# Altium integrated library Motorola Microcontroller 32-Bit.IntLib: 337 symbols (part 8 of 29)
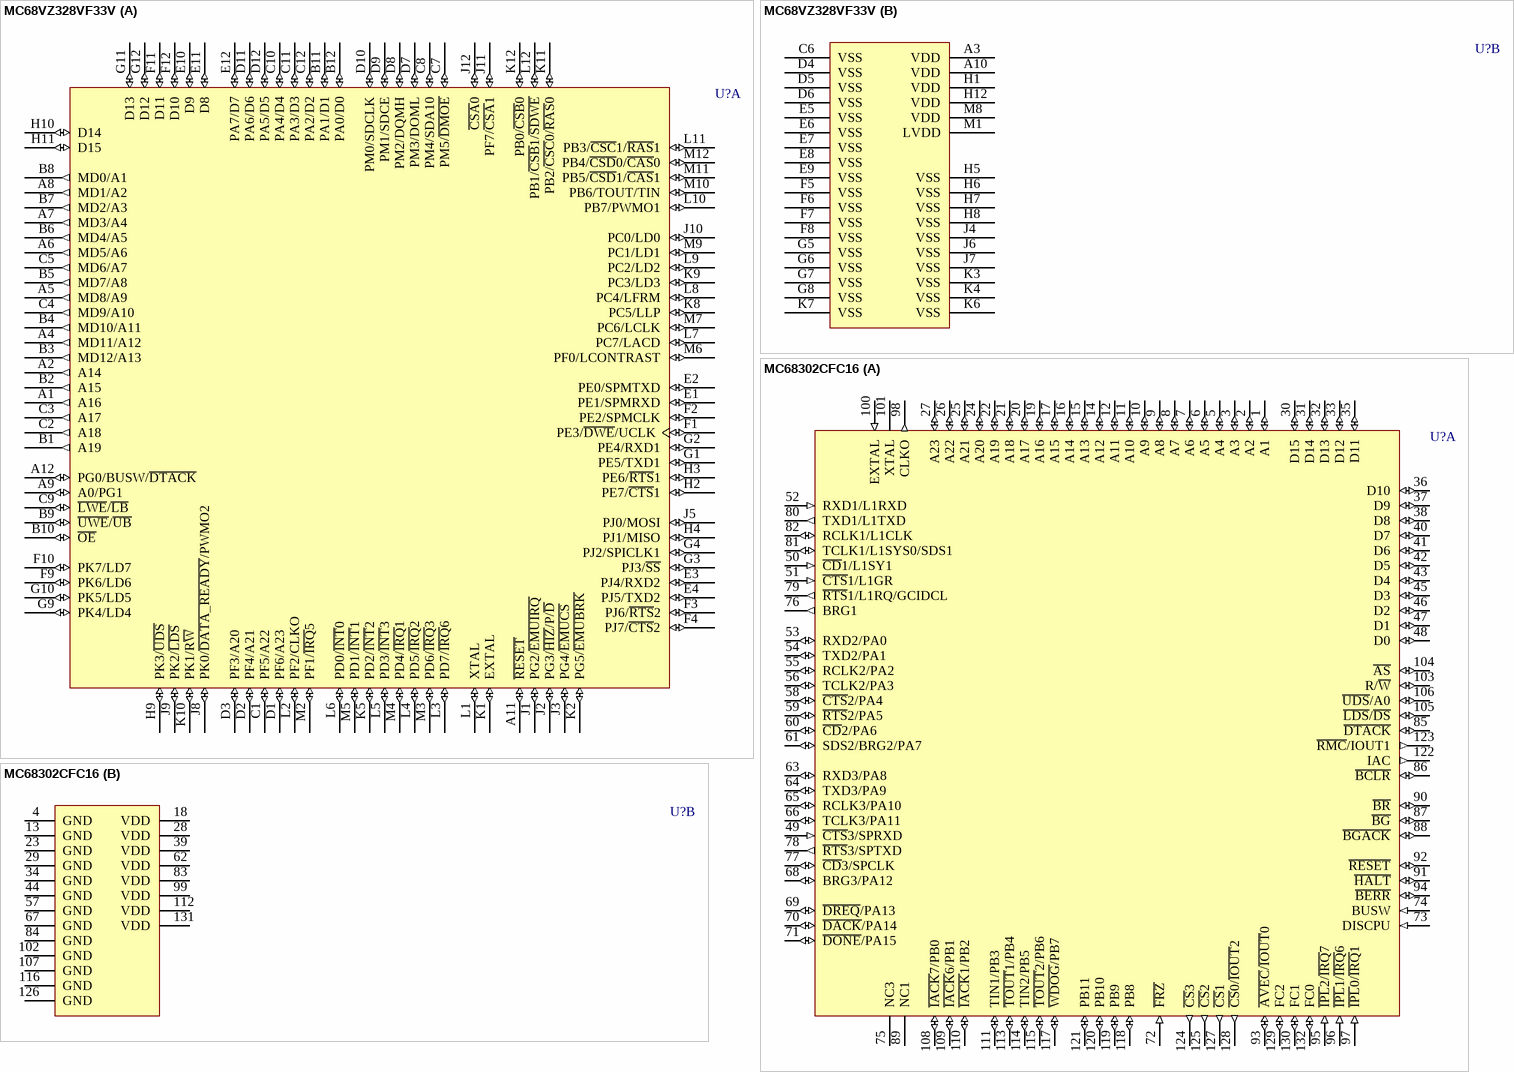
[diagram p247: symbols MC68VZ328VF33V to MC68302CFC16]

## MC68302CFC16
designator U?
Integrated Multiprotocol Processor; Published: 21-Mar-2003; DatasheetVersion: 30-Dec-1995; PackageVersion: 1997; PackageReference: 831A-01; Publisher: Altium Limited; PackageDescription: PQFP; 132 Leads; Body 24 x 24 mm; Pitch 0.635 mm; ComponentLink1Description: Manufacturer Link; ComponentLink1URL: http://www.freescale.com/; ComponentLink2Description: Datasheet; ComponentLink2URL: http://www.freescale.com/files/32bit/doc/ref_manual/MC68302UM.pdf
footprint 831A-01 (PQFP; 132 Leads; Body 24 x 24 mm; Pitch 0.635 mm)
part A pins: 1 A1 (io), 2 A2 (io), 3 A3 (io), 5 A4 (io), 6 A5 (io), 7 A6 (io), 8 A7 (io), 9 A8 (io), 10 A9 (io), 11 A10 (io), 12 A11 (io), 14 A12 (io), 15 A13 (io), 16 A14 (io), 17 A15 (io), 19 A16 (io), 20 A17 (io), 21 A18 (io), 22 A19 (io), 24 A20 (io), 25 A21 (io), 26 A22 (io), 27 A23 (io), 30 D15 (io), 31 D14 (io), 32 D13 (io), 33 D12 (io), 35 D11 (io), 36 D10 (io), 37 D9 (io), 38 D8 (io), 40 D7 (io), 41 D6 (io), 42 D5 (io), 43 D4 (io), 45 D3 (io), 46 D2 (io), 47 D1 (io), 48 D0 (io), 49 ~{CTS}3/SPRXD (in), 50 ~{CD}1/L1SY1 (in), 51 ~{CTS}1/L1GR (in), 52 RXD1/L1RXD (in), 53 RXD2/PA0 (io), 54 TXD2/PA1 (io), 55 RCLK2/PA2 (io), 56 TCLK2/PA3 (io), 58 ~{CTS}2/PA4 (io), 59 ~{RTS}2/PA5 (io), 60 ~{CD}2/PA6 (io), 61 SDS2/BRG2/PA7 (io), 63 RXD3/PA8 (io), 64 TXD3/PA9 (io), 65 RCLK3/PA10 (io), 66 TCLK3/PA11 (io), 68 BRG3/PA12 (io), 69 ~{DREQ}/PA13 (io), 70 ~{DACK}/PA14 (io), 71 ~{DONE}/PA15 (io), 72 ~{FRZ} (in), 73 DISCPU (in), 74 BUSW (in), 75 NC3, 76 BRG1 (out), 77 ~{CD}3/SPCLK (io), 78 ~{RTS}3/SPTXD (out), 79 ~{RTS}1/L1RQ/GCIDCL (out), 80 TXD1/L1TXD (out), 81 TCLK1/L1SYS0/SDS1 (io), 82 RCLK1/L1CLK (io), 85 ~{DTACK} (io), 86 ~{BCLR} (io), 87 ~{BG} (io), 88 ~{BGACK} (io), 89 NC1, 90 ~{BR} (io), 91 ~{HALT} (io), 92 ~{RESET} (io), 93 ~{AVEC}/~{IOUT}0 (io), 94 ~{BERR} (io), 95 ~{IPL}2/~{IRQ}7 (in), 96 ~{IPL}1/~{IRQ}6 (in), 97 ~{IPL}0/~{IRQ}1 (in), 98 CLKO (out), 100 EXTAL (in), 101 XTAL, 103 R/~{W} (io), 104 ~{AS} (io), 105 ~{LDS}/~{DS} (io), 106 ~{UDS}/A0 (io), 108 ~{IACK}7/PB0 (io), 109 ~{IACK}6/PB1 (io), 110 ~{IACK}1/PB2 (io), 111 TIN1/PB3 (io), 113 ~{TOUT}1/PB4 (io), 114 TIN2/PB5 (io), 115 ~{TOUT}2/PB6 (io), 117 ~{WDOG}/PB7 (io), 118 PB8 (io), 119 PB9 (io), 120 PB10 (io), 121 PB11 (io), 122 IAC (out), 123 ~{RMC}/IOUT1 (out), 124 ~{CS}3 (out), 125 ~{CS}2 (out), 127 ~{CS}1 (out), 128 ~{CS}0/~{IOUT}2 (out), 129 FC2 (io), 130 FC1 (io), 132 FC0 (io)
part B pins: 4 GND (power), 13 GND (power), 18 VDD (power), 23 GND (power), 28 VDD (power), 29 GND (power), 34 GND (power), 39 VDD (power), 44 GND (power), 57 GND (power), 62 VDD (power), 67 GND (power), 83 VDD (power), 84 GND (power), 99 VDD (power), 102 GND (power), 107 GND (power), 112 VDD (power), 116 GND (power), 126 GND (power), 131 VDD (power)

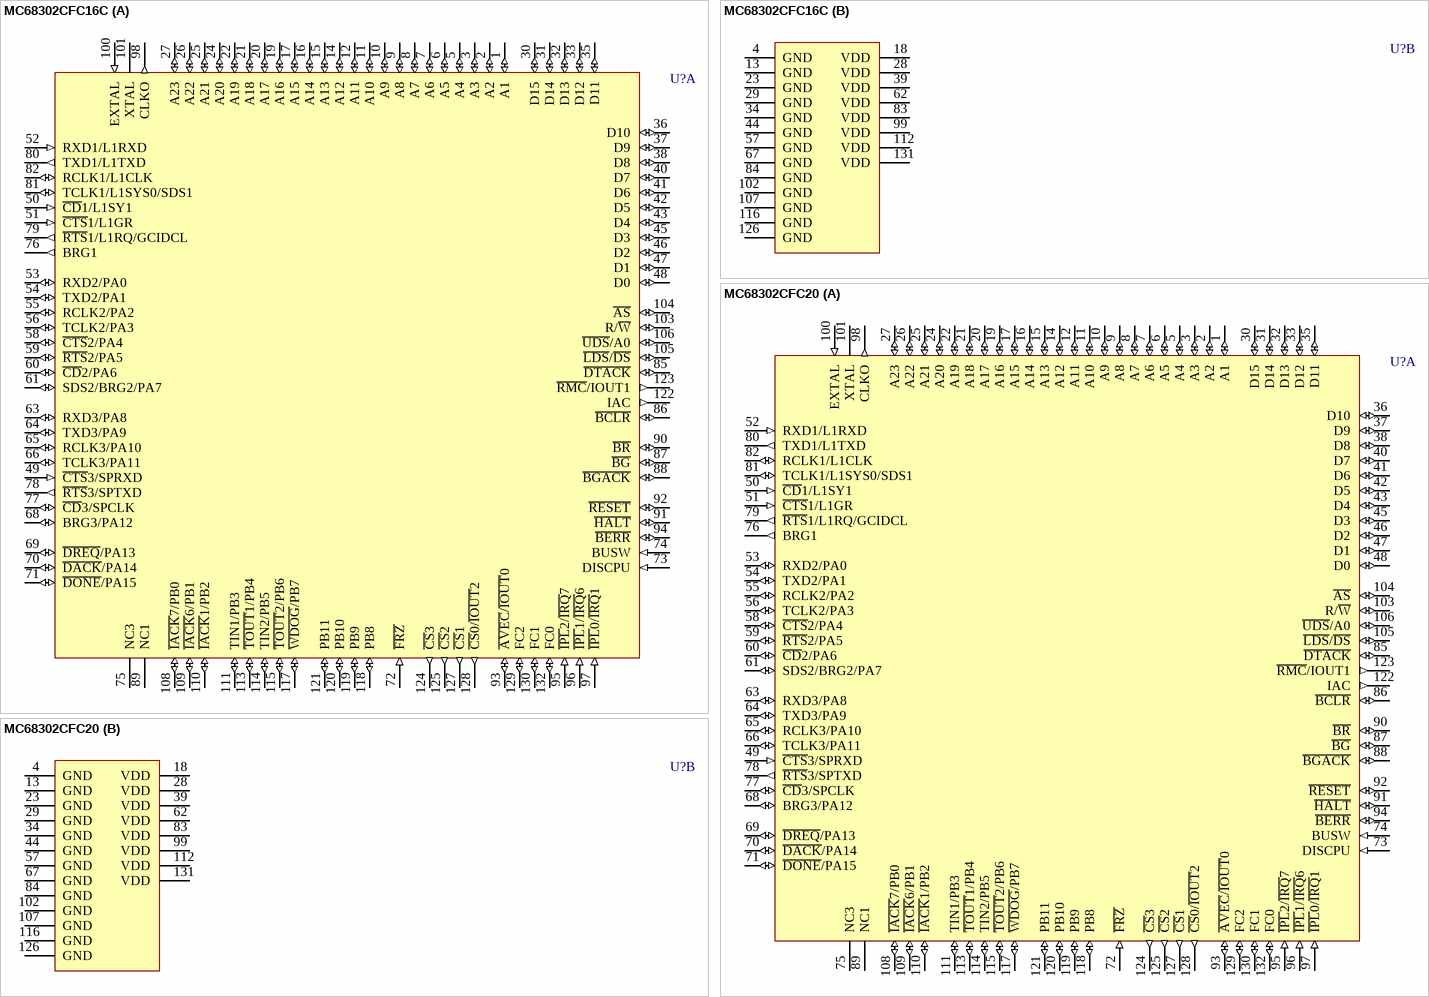
[diagram p70: symbols MC68302CFC16C to MC68302CFC20]

## MC68302CFC16C
designator U?
Integrated Multiprotocol Processor; Published: 21-Mar-2003; DatasheetVersion: 30-Dec-1995; PackageVersion: 1997; PackageReference: 831A-01; Publisher: Altium Limited; PackageDescription: PQFP; 132 Leads; Body 24 x 24 mm; Pitch 0.635 mm; ComponentLink1Description: Manufacturer Link; ComponentLink1URL: http://www.freescale.com/
footprint 831A-01 (PQFP; 132 Leads; Body 24 x 24 mm; Pitch 0.635 mm)
part A pins: 1 A1 (io), 2 A2 (io), 3 A3 (io), 5 A4 (io), 6 A5 (io), 7 A6 (io), 8 A7 (io), 9 A8 (io), 10 A9 (io), 11 A10 (io), 12 A11 (io), 14 A12 (io), 15 A13 (io), 16 A14 (io), 17 A15 (io), 19 A16 (io), 20 A17 (io), 21 A18 (io), 22 A19 (io), 24 A20 (io), 25 A21 (io), 26 A22 (io), 27 A23 (io), 30 D15 (io), 31 D14 (io), 32 D13 (io), 33 D12 (io), 35 D11 (io), 36 D10 (io), 37 D9 (io), 38 D8 (io), 40 D7 (io), 41 D6 (io), 42 D5 (io), 43 D4 (io), 45 D3 (io), 46 D2 (io), 47 D1 (io), 48 D0 (io), 49 ~{CTS}3/SPRXD (in), 50 ~{CD}1/L1SY1 (in), 51 ~{CTS}1/L1GR (in), 52 RXD1/L1RXD (in), 53 RXD2/PA0 (io), 54 TXD2/PA1 (io), 55 RCLK2/PA2 (io), 56 TCLK2/PA3 (io), 58 ~{CTS}2/PA4 (io), 59 ~{RTS}2/PA5 (io), 60 ~{CD}2/PA6 (io), 61 SDS2/BRG2/PA7 (io), 63 RXD3/PA8 (io), 64 TXD3/PA9 (io), 65 RCLK3/PA10 (io), 66 TCLK3/PA11 (io), 68 BRG3/PA12 (io), 69 ~{DREQ}/PA13 (io), 70 ~{DACK}/PA14 (io), 71 ~{DONE}/PA15 (io), 72 ~{FRZ} (in), 73 DISCPU (in), 74 BUSW (in), 75 NC3, 76 BRG1 (out), 77 ~{CD}3/SPCLK (io), 78 ~{RTS}3/SPTXD (out), 79 ~{RTS}1/L1RQ/GCIDCL (out), 80 TXD1/L1TXD (out), 81 TCLK1/L1SYS0/SDS1 (io), 82 RCLK1/L1CLK (io), 85 ~{DTACK} (io), 86 ~{BCLR} (io), 87 ~{BG} (io), 88 ~{BGACK} (io), 89 NC1, 90 ~{BR} (io), 91 ~{HALT} (io), 92 ~{RESET} (io), 93 ~{AVEC}/~{IOUT}0 (io), 94 ~{BERR} (io), 95 ~{IPL}2/~{IRQ}7 (in), 96 ~{IPL}1/~{IRQ}6 (in), 97 ~{IPL}0/~{IRQ}1 (in), 98 CLKO (out), 100 EXTAL (in), 101 XTAL, 103 R/~{W} (io), 104 ~{AS} (io), 105 ~{LDS}/~{DS} (io), 106 ~{UDS}/A0 (io), 108 ~{IACK}7/PB0 (io), 109 ~{IACK}6/PB1 (io), 110 ~{IACK}1/PB2 (io), 111 TIN1/PB3 (io), 113 ~{TOUT}1/PB4 (io), 114 TIN2/PB5 (io), 115 ~{TOUT}2/PB6 (io), 117 ~{WDOG}/PB7 (io), 118 PB8 (io), 119 PB9 (io), 120 PB10 (io), 121 PB11 (io), 122 IAC (out), 123 ~{RMC}/IOUT1 (out), 124 ~{CS}3 (out), 125 ~{CS}2 (out), 127 ~{CS}1 (out), 128 ~{CS}0/~{IOUT}2 (out), 129 FC2 (io), 130 FC1 (io), 132 FC0 (io)
part B pins: 4 GND (power), 13 GND (power), 18 VDD (power), 23 GND (power), 28 VDD (power), 29 GND (power), 34 GND (power), 39 VDD (power), 44 GND (power), 57 GND (power), 62 VDD (power), 67 GND (power), 83 VDD (power), 84 GND (power), 99 VDD (power), 102 GND (power), 107 GND (power), 112 VDD (power), 116 GND (power), 126 GND (power), 131 VDD (power)

## MC68302CFC20
designator U?
Integrated Multiprotocol Processor; Published: 21-Mar-2003; DatasheetVersion: 30-Dec-1995; PackageVersion: 1997; PackageReference: 831A-01; Publisher: Altium Limited; PackageDescription: PQFP; 132 Leads; Body 24 x 24 mm; Pitch 0.635 mm; ComponentLink1Description: Manufacturer Link; ComponentLink1URL: http://www.freescale.com/; ComponentLink2Description: Datasheet; ComponentLink2URL: http://www.freescale.com/files/32bit/doc/ref_manual/MC68302UM.pdf
footprint 831A-01 (PQFP; 132 Leads; Body 24 x 24 mm; Pitch 0.635 mm)
part A pins: 1 A1 (io), 2 A2 (io), 3 A3 (io), 5 A4 (io), 6 A5 (io), 7 A6 (io), 8 A7 (io), 9 A8 (io), 10 A9 (io), 11 A10 (io), 12 A11 (io), 14 A12 (io), 15 A13 (io), 16 A14 (io), 17 A15 (io), 19 A16 (io), 20 A17 (io), 21 A18 (io), 22 A19 (io), 24 A20 (io), 25 A21 (io), 26 A22 (io), 27 A23 (io), 30 D15 (io), 31 D14 (io), 32 D13 (io), 33 D12 (io), 35 D11 (io), 36 D10 (io), 37 D9 (io), 38 D8 (io), 40 D7 (io), 41 D6 (io), 42 D5 (io), 43 D4 (io), 45 D3 (io), 46 D2 (io), 47 D1 (io), 48 D0 (io), 49 ~{CTS}3/SPRXD (in), 50 ~{CD}1/L1SY1 (in), 51 ~{CTS}1/L1GR (in), 52 RXD1/L1RXD (in), 53 RXD2/PA0 (io), 54 TXD2/PA1 (io), 55 RCLK2/PA2 (io), 56 TCLK2/PA3 (io), 58 ~{CTS}2/PA4 (io), 59 ~{RTS}2/PA5 (io), 60 ~{CD}2/PA6 (io), 61 SDS2/BRG2/PA7 (io), 63 RXD3/PA8 (io), 64 TXD3/PA9 (io), 65 RCLK3/PA10 (io), 66 TCLK3/PA11 (io), 68 BRG3/PA12 (io), 69 ~{DREQ}/PA13 (io), 70 ~{DACK}/PA14 (io), 71 ~{DONE}/PA15 (io), 72 ~{FRZ} (in), 73 DISCPU (in), 74 BUSW (in), 75 NC3, 76 BRG1 (out), 77 ~{CD}3/SPCLK (io), 78 ~{RTS}3/SPTXD (out), 79 ~{RTS}1/L1RQ/GCIDCL (out), 80 TXD1/L1TXD (out), 81 TCLK1/L1SYS0/SDS1 (io), 82 RCLK1/L1CLK (io), 85 ~{DTACK} (io), 86 ~{BCLR} (io), 87 ~{BG} (io), 88 ~{BGACK} (io), 89 NC1, 90 ~{BR} (io), 91 ~{HALT} (io), 92 ~{RESET} (io), 93 ~{AVEC}/~{IOUT}0 (io), 94 ~{BERR} (io), 95 ~{IPL}2/~{IRQ}7 (in), 96 ~{IPL}1/~{IRQ}6 (in), 97 ~{IPL}0/~{IRQ}1 (in), 98 CLKO (out), 100 EXTAL (in), 101 XTAL, 103 R/~{W} (io), 104 ~{AS} (io), 105 ~{LDS}/~{DS} (io), 106 ~{UDS}/A0 (io), 108 ~{IACK}7/PB0 (io), 109 ~{IACK}6/PB1 (io), 110 ~{IACK}1/PB2 (io), 111 TIN1/PB3 (io), 113 ~{TOUT}1/PB4 (io), 114 TIN2/PB5 (io), 115 ~{TOUT}2/PB6 (io), 117 ~{WDOG}/PB7 (io), 118 PB8 (io), 119 PB9 (io), 120 PB10 (io), 121 PB11 (io), 122 IAC (out), 123 ~{RMC}/IOUT1 (out), 124 ~{CS}3 (out), 125 ~{CS}2 (out), 127 ~{CS}1 (out), 128 ~{CS}0/~{IOUT}2 (out), 129 FC2 (io), 130 FC1 (io), 132 FC0 (io)
part B pins: 4 GND (power), 13 GND (power), 18 VDD (power), 23 GND (power), 28 VDD (power), 29 GND (power), 34 GND (power), 39 VDD (power), 44 GND (power), 57 GND (power), 62 VDD (power), 67 GND (power), 83 VDD (power), 84 GND (power), 99 VDD (power), 102 GND (power), 107 GND (power), 112 VDD (power), 116 GND (power), 126 GND (power), 131 VDD (power)

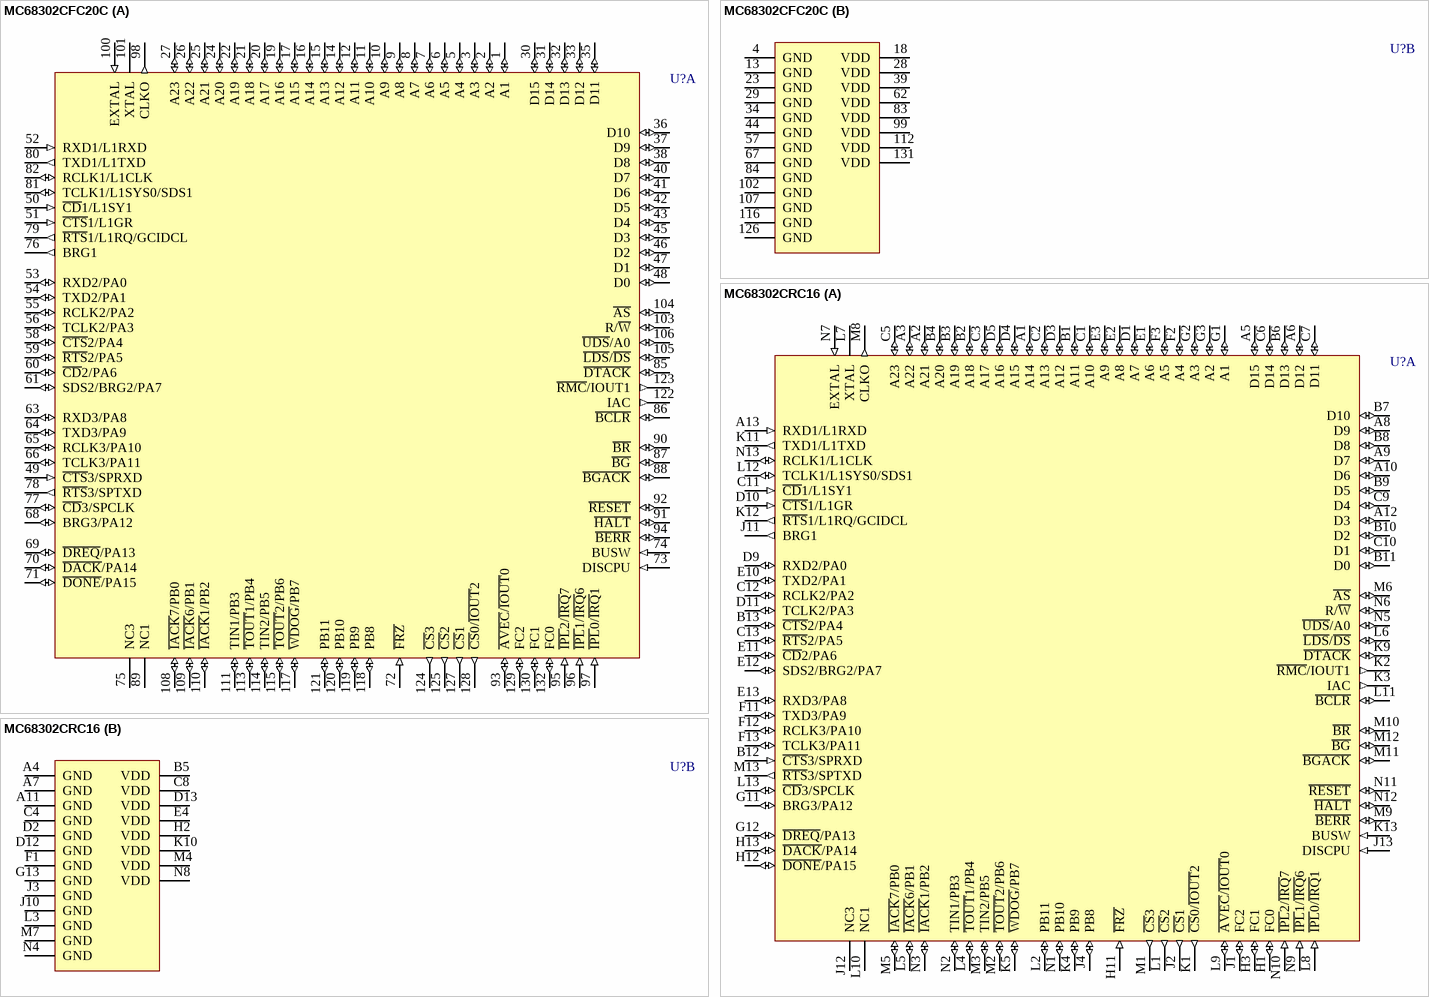
[diagram p71: symbols MC68302CFC20C to MC68302CRC16]

## MC68302CFC20C
designator U?
Integrated Multiprotocol Processor; Published: 21-Mar-2003; DatasheetVersion: 30-Dec-1995; PackageVersion: 1997; PackageReference: 831A-01; Publisher: Altium Limited; PackageDescription: PQFP; 132 Leads; Body 24 x 24 mm; Pitch 0.635 mm; ComponentLink1Description: Manufacturer Link; ComponentLink1URL: http://www.freescale.com/
footprint 831A-01 (PQFP; 132 Leads; Body 24 x 24 mm; Pitch 0.635 mm)
part A pins: 1 A1 (io), 2 A2 (io), 3 A3 (io), 5 A4 (io), 6 A5 (io), 7 A6 (io), 8 A7 (io), 9 A8 (io), 10 A9 (io), 11 A10 (io), 12 A11 (io), 14 A12 (io), 15 A13 (io), 16 A14 (io), 17 A15 (io), 19 A16 (io), 20 A17 (io), 21 A18 (io), 22 A19 (io), 24 A20 (io), 25 A21 (io), 26 A22 (io), 27 A23 (io), 30 D15 (io), 31 D14 (io), 32 D13 (io), 33 D12 (io), 35 D11 (io), 36 D10 (io), 37 D9 (io), 38 D8 (io), 40 D7 (io), 41 D6 (io), 42 D5 (io), 43 D4 (io), 45 D3 (io), 46 D2 (io), 47 D1 (io), 48 D0 (io), 49 ~{CTS}3/SPRXD (in), 50 ~{CD}1/L1SY1 (in), 51 ~{CTS}1/L1GR (in), 52 RXD1/L1RXD (in), 53 RXD2/PA0 (io), 54 TXD2/PA1 (io), 55 RCLK2/PA2 (io), 56 TCLK2/PA3 (io), 58 ~{CTS}2/PA4 (io), 59 ~{RTS}2/PA5 (io), 60 ~{CD}2/PA6 (io), 61 SDS2/BRG2/PA7 (io), 63 RXD3/PA8 (io), 64 TXD3/PA9 (io), 65 RCLK3/PA10 (io), 66 TCLK3/PA11 (io), 68 BRG3/PA12 (io), 69 ~{DREQ}/PA13 (io), 70 ~{DACK}/PA14 (io), 71 ~{DONE}/PA15 (io), 72 ~{FRZ} (in), 73 DISCPU (in), 74 BUSW (in), 75 NC3, 76 BRG1 (out), 77 ~{CD}3/SPCLK (io), 78 ~{RTS}3/SPTXD (out), 79 ~{RTS}1/L1RQ/GCIDCL (out), 80 TXD1/L1TXD (out), 81 TCLK1/L1SYS0/SDS1 (io), 82 RCLK1/L1CLK (io), 85 ~{DTACK} (io), 86 ~{BCLR} (io), 87 ~{BG} (io), 88 ~{BGACK} (io), 89 NC1, 90 ~{BR} (io), 91 ~{HALT} (io), 92 ~{RESET} (io), 93 ~{AVEC}/~{IOUT}0 (io), 94 ~{BERR} (io), 95 ~{IPL}2/~{IRQ}7 (in), 96 ~{IPL}1/~{IRQ}6 (in), 97 ~{IPL}0/~{IRQ}1 (in), 98 CLKO (out), 100 EXTAL (in), 101 XTAL, 103 R/~{W} (io), 104 ~{AS} (io), 105 ~{LDS}/~{DS} (io), 106 ~{UDS}/A0 (io), 108 ~{IACK}7/PB0 (io), 109 ~{IACK}6/PB1 (io), 110 ~{IACK}1/PB2 (io), 111 TIN1/PB3 (io), 113 ~{TOUT}1/PB4 (io), 114 TIN2/PB5 (io), 115 ~{TOUT}2/PB6 (io), 117 ~{WDOG}/PB7 (io), 118 PB8 (io), 119 PB9 (io), 120 PB10 (io), 121 PB11 (io), 122 IAC (out), 123 ~{RMC}/IOUT1 (out), 124 ~{CS}3 (out), 125 ~{CS}2 (out), 127 ~{CS}1 (out), 128 ~{CS}0/~{IOUT}2 (out), 129 FC2 (io), 130 FC1 (io), 132 FC0 (io)
part B pins: 4 GND (power), 13 GND (power), 18 VDD (power), 23 GND (power), 28 VDD (power), 29 GND (power), 34 GND (power), 39 VDD (power), 44 GND (power), 57 GND (power), 62 VDD (power), 67 GND (power), 83 VDD (power), 84 GND (power), 99 VDD (power), 102 GND (power), 107 GND (power), 112 VDD (power), 116 GND (power), 126 GND (power), 131 VDD (power)

## MC68302CRC16
designator U?
Integrated Multiprotocol Processor; Published: 21-Mar-2003; LatestRevisionDate: 06-Jun-2005; LatestRevisionNote: Stylized 3D Model Added.; DatasheetVersion: 30-Dec-1995; PackageVersion: 1995; PackageReference: 789B-01; Publisher: Altium Limited; PackageDescription: 132-Pin Ceramic Pin Grid Array 2.54 mm Pitch; ComponentLink1Description: Manufacturer Link; ComponentLink1URL: http://www.freescale.com/; ComponentLink2Description: Datasheet; ComponentLink2URL: http://www.freescale.com/files/32bit/doc/ref_manual/MC68302UM.pdf
footprint 789B-01 (PGA, 132-Leads, Body 34.5x34.5mm, Pitch 2.54mm)
3D model MC68302-789B-01 (132-Pin Ceramic Pin Grid Array 2.54 mm Pitch)
part A pins: A1 A14 (io), A2 A21 (io), A3 A22 (io), A5 D15 (io), A6 D12 (io), A8 D9 (io), A9 D7 (io), A10 D6 (io), A12 D3 (io), A13 RXD1/L1RXD (in), B1 A11 (io), B2 A18 (io), B3 A19 (io), B4 A20 (io), B6 D13 (io), B7 D10 (io), B8 D8 (io), B9 D5 (io), B10 D2 (io), B11 D0 (io), B12 ~{CTS}3/SPRXD (in), B13 ~{CTS}2/PA4 (io), C1 A10 (io), C2 A13 (io), C3 A17 (io), C5 A23 (io), C6 D14 (io), C7 D11 (io), C9 D4 (io), C10 D1 (io), C11 ~{CD}1/L1SY1 (in), C12 RCLK2/PA2 (io), C13 ~{RTS}2/PA5 (io), D1 A7 (io), D3 A12 (io), D4 A15 (io), D5 A16 (io), D9 RXD2/PA0 (io), D10 ~{CTS}1/L1GR (in), D11 TCLK2/PA3 (io), E1 A6 (io), E2 A8 (io), E3 A9 (io), E10 TXD2/PA1 (io), E11 ~{CD}2/PA6 (io), E12 SDS2/BRG2/PA7 (io), E13 RXD3/PA8 (io), F2 A4 (io), F3 A5 (io), F11 TXD3/PA9 (io), F12 RCLK3/PA10 (io), F13 TCLK3/PA11 (io), G1 A1 (io), G2 A3 (io), G3 A2 (io), G11 BRG3/PA12 (io), G12 ~{DREQ}/PA13 (io), H1 FC0 (io), H3 FC1 (io), H11 ~{FRZ} (in), H12 ~{DONE}/PA15 (io), H13 ~{DACK}/PA14 (io), J1 FC2 (io), J2 ~{CS}1 (out), J4 PB8 (io), J11 BRG1 (out), J12 NC3, J13 DISCPU (in), K1 ~{CS}0/~{IOUT}2 (out), K2 ~{RMC}/IOUT1 (out), K3 IAC (out), K4 PB9 (io), K5 ~{WDOG}/PB7 (io), K9 ~{DTACK} (io), K11 TXD1/L1TXD (out), K12 ~{RTS}1/L1RQ/GCIDCL (out), K13 BUSW (in), L1 ~{CS}2 (out), L2 PB11 (io), L4 ~{TOUT}1/PB4 (io), L5 ~{IACK}6/PB1 (io), L6 ~{LDS}/~{DS} (io), L7 XTAL, L8 ~{IPL}0/~{IRQ}1 (in), L9 ~{AVEC}/~{IOUT}0 (io), L10 NC1, L11 ~{BCLR} (io), L12 TCLK1/L1SYS0/SDS1 (io), L13 ~{CD}3/SPCLK (io), M1 ~{CS}3 (out), M2 ~{TOUT}2/PB6 (io), M3 TIN2/PB5 (io), M5 ~{IACK}7/PB0 (io), M6 ~{AS} (io), M8 CLKO (out), M9 ~{BERR} (io), M10 ~{BR} (io), M11 ~{BGACK} (io), M12 ~{BG} (io), M13 ~{RTS}3/SPTXD (out), N1 PB10 (io), N2 TIN1/PB3 (io), N3 ~{IACK}1/PB2 (io), N5 ~{UDS}/A0 (io), N6 R/~{W} (io), N7 EXTAL (in), N9 ~{IPL}1/~{IRQ}6 (in), N10 ~{IPL}2/~{IRQ}7 (in), N11 ~{RESET} (io), N12 ~{HALT} (io), N13 RCLK1/L1CLK (io)
part B pins: A4 GND (power), A7 GND (power), A11 GND (power), B5 VDD (power), C4 GND (power), C8 VDD (power), D2 GND (power), D12 GND (power), D13 VDD (power), E4 VDD (power), F1 GND (power), G13 GND (power), H2 VDD (power), J3 GND (power), J10 GND (power), K10 VDD (power), L3 GND (power), M4 VDD (power), M7 GND (power), N4 GND (power), N8 VDD (power)

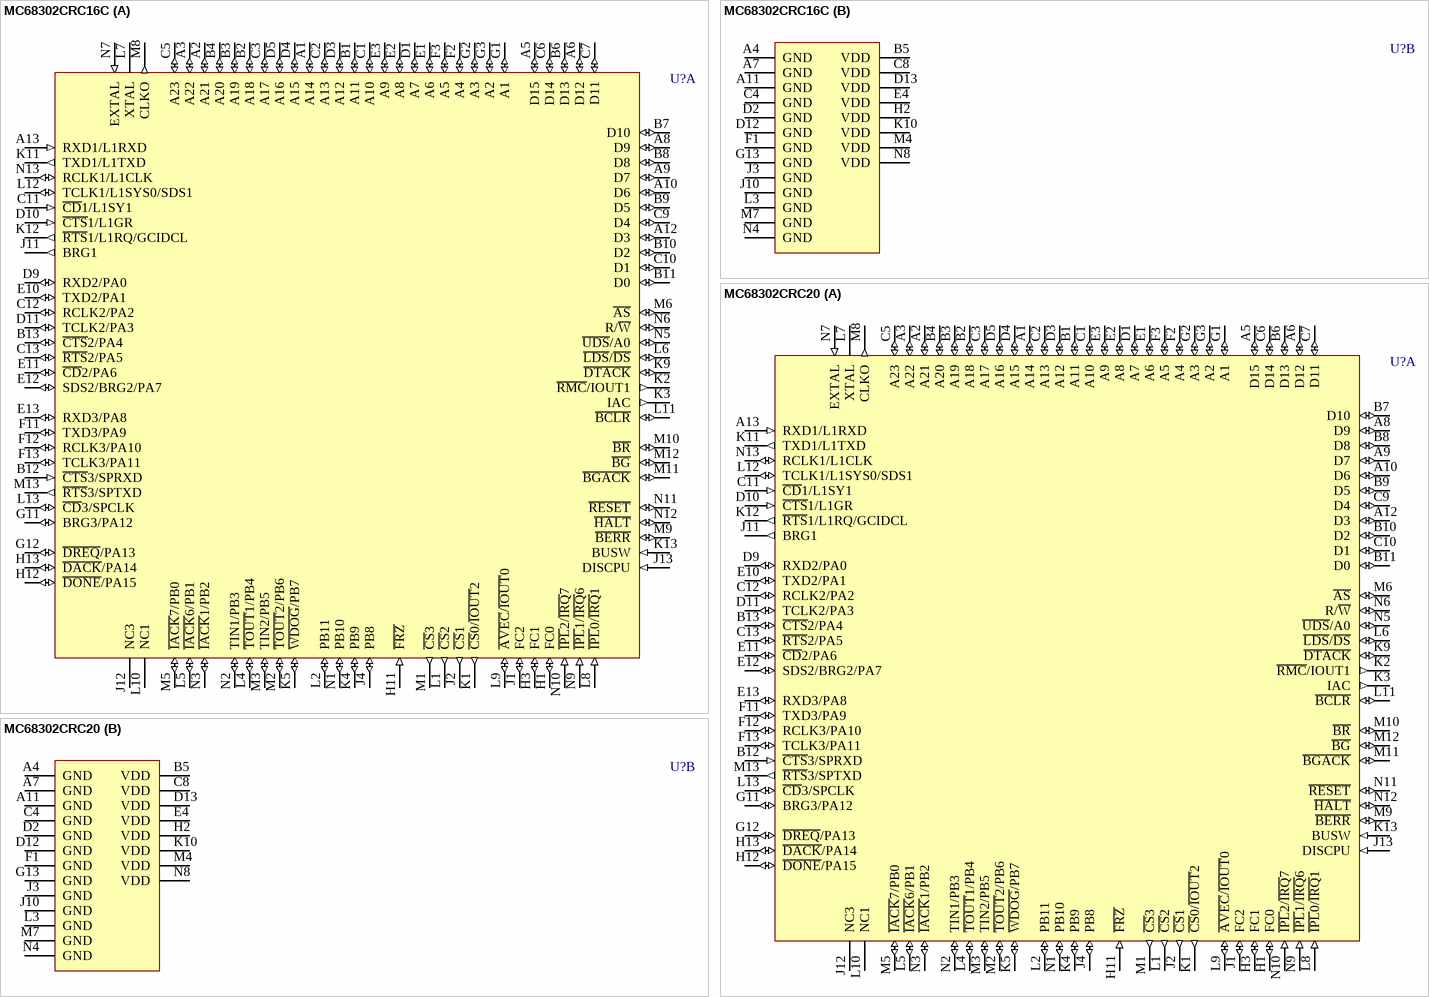
[diagram p72: symbols MC68302CRC16C to MC68302CRC20]

## MC68302CRC16C
designator U?
Integrated Multiprotocol Processor; Published: 21-Mar-2003; LatestRevisionDate: 06-Jun-2005; LatestRevisionNote: Stylized 3D Model Added.; DatasheetVersion: 30-Dec-1995; PackageVersion: 1995; PackageReference: 789B-01; Publisher: Altium Limited; PackageDescription: 132-Pin Ceramic Pin Grid Array 2.54 mm Pitch; ComponentLink1Description: Manufacturer Link; ComponentLink1URL: http://www.freescale.com/
footprint 789B-01 (PGA, 132-Leads, Body 34.5x34.5mm, Pitch 2.54mm)
3D model MC68302-789B-01 (132-Pin Ceramic Pin Grid Array 2.54 mm Pitch)
part A pins: A1 A14 (io), A2 A21 (io), A3 A22 (io), A5 D15 (io), A6 D12 (io), A8 D9 (io), A9 D7 (io), A10 D6 (io), A12 D3 (io), A13 RXD1/L1RXD (in), B1 A11 (io), B2 A18 (io), B3 A19 (io), B4 A20 (io), B6 D13 (io), B7 D10 (io), B8 D8 (io), B9 D5 (io), B10 D2 (io), B11 D0 (io), B12 ~{CTS}3/SPRXD (in), B13 ~{CTS}2/PA4 (io), C1 A10 (io), C2 A13 (io), C3 A17 (io), C5 A23 (io), C6 D14 (io), C7 D11 (io), C9 D4 (io), C10 D1 (io), C11 ~{CD}1/L1SY1 (in), C12 RCLK2/PA2 (io), C13 ~{RTS}2/PA5 (io), D1 A7 (io), D3 A12 (io), D4 A15 (io), D5 A16 (io), D9 RXD2/PA0 (io), D10 ~{CTS}1/L1GR (in), D11 TCLK2/PA3 (io), E1 A6 (io), E2 A8 (io), E3 A9 (io), E10 TXD2/PA1 (io), E11 ~{CD}2/PA6 (io), E12 SDS2/BRG2/PA7 (io), E13 RXD3/PA8 (io), F2 A4 (io), F3 A5 (io), F11 TXD3/PA9 (io), F12 RCLK3/PA10 (io), F13 TCLK3/PA11 (io), G1 A1 (io), G2 A3 (io), G3 A2 (io), G11 BRG3/PA12 (io), G12 ~{DREQ}/PA13 (io), H1 FC0 (io), H3 FC1 (io), H11 ~{FRZ} (in), H12 ~{DONE}/PA15 (io), H13 ~{DACK}/PA14 (io), J1 FC2 (io), J2 ~{CS}1 (out), J4 PB8 (io), J11 BRG1 (out), J12 NC3, J13 DISCPU (in), K1 ~{CS}0/~{IOUT}2 (out), K2 ~{RMC}/IOUT1 (out), K3 IAC (out), K4 PB9 (io), K5 ~{WDOG}/PB7 (io), K9 ~{DTACK} (io), K11 TXD1/L1TXD (out), K12 ~{RTS}1/L1RQ/GCIDCL (out), K13 BUSW (in), L1 ~{CS}2 (out), L2 PB11 (io), L4 ~{TOUT}1/PB4 (io), L5 ~{IACK}6/PB1 (io), L6 ~{LDS}/~{DS} (io), L7 XTAL, L8 ~{IPL}0/~{IRQ}1 (in), L9 ~{AVEC}/~{IOUT}0 (io), L10 NC1, L11 ~{BCLR} (io), L12 TCLK1/L1SYS0/SDS1 (io), L13 ~{CD}3/SPCLK (io), M1 ~{CS}3 (out), M2 ~{TOUT}2/PB6 (io), M3 TIN2/PB5 (io), M5 ~{IACK}7/PB0 (io), M6 ~{AS} (io), M8 CLKO (out), M9 ~{BERR} (io), M10 ~{BR} (io), M11 ~{BGACK} (io), M12 ~{BG} (io), M13 ~{RTS}3/SPTXD (out), N1 PB10 (io), N2 TIN1/PB3 (io), N3 ~{IACK}1/PB2 (io), N5 ~{UDS}/A0 (io), N6 R/~{W} (io), N7 EXTAL (in), N9 ~{IPL}1/~{IRQ}6 (in), N10 ~{IPL}2/~{IRQ}7 (in), N11 ~{RESET} (io), N12 ~{HALT} (io), N13 RCLK1/L1CLK (io)
part B pins: A4 GND (power), A7 GND (power), A11 GND (power), B5 VDD (power), C4 GND (power), C8 VDD (power), D2 GND (power), D12 GND (power), D13 VDD (power), E4 VDD (power), F1 GND (power), G13 GND (power), H2 VDD (power), J3 GND (power), J10 GND (power), K10 VDD (power), L3 GND (power), M4 VDD (power), M7 GND (power), N4 GND (power), N8 VDD (power)

## MC68302CRC20
designator U?
Integrated Multiprotocol Processor; Published: 21-Mar-2003; LatestRevisionDate: 06-Jun-2005; LatestRevisionNote: Stylized 3D Model Added.; DatasheetVersion: 30-Dec-1995; PackageVersion: 1995; PackageReference: 789B-01; Publisher: Altium Limited; PackageDescription: 132-Pin Ceramic Pin Grid Array 2.54 mm Pitch; ComponentLink1Description: Manufacturer Link; ComponentLink1URL: http://www.freescale.com/; ComponentLink2Description: Datasheet; ComponentLink2URL: http://www.freescale.com/files/32bit/doc/ref_manual/MC68302UM.pdf
footprint 789B-01 (PGA, 132-Leads, Body 34.5x34.5mm, Pitch 2.54mm)
3D model MC68302-789B-01 (132-Pin Ceramic Pin Grid Array 2.54 mm Pitch)
part A pins: A1 A14 (io), A2 A21 (io), A3 A22 (io), A5 D15 (io), A6 D12 (io), A8 D9 (io), A9 D7 (io), A10 D6 (io), A12 D3 (io), A13 RXD1/L1RXD (in), B1 A11 (io), B2 A18 (io), B3 A19 (io), B4 A20 (io), B6 D13 (io), B7 D10 (io), B8 D8 (io), B9 D5 (io), B10 D2 (io), B11 D0 (io), B12 ~{CTS}3/SPRXD (in), B13 ~{CTS}2/PA4 (io), C1 A10 (io), C2 A13 (io), C3 A17 (io), C5 A23 (io), C6 D14 (io), C7 D11 (io), C9 D4 (io), C10 D1 (io), C11 ~{CD}1/L1SY1 (in), C12 RCLK2/PA2 (io), C13 ~{RTS}2/PA5 (io), D1 A7 (io), D3 A12 (io), D4 A15 (io), D5 A16 (io), D9 RXD2/PA0 (io), D10 ~{CTS}1/L1GR (in), D11 TCLK2/PA3 (io), E1 A6 (io), E2 A8 (io), E3 A9 (io), E10 TXD2/PA1 (io), E11 ~{CD}2/PA6 (io), E12 SDS2/BRG2/PA7 (io), E13 RXD3/PA8 (io), F2 A4 (io), F3 A5 (io), F11 TXD3/PA9 (io), F12 RCLK3/PA10 (io), F13 TCLK3/PA11 (io), G1 A1 (io), G2 A3 (io), G3 A2 (io), G11 BRG3/PA12 (io), G12 ~{DREQ}/PA13 (io), H1 FC0 (io), H3 FC1 (io), H11 ~{FRZ} (in), H12 ~{DONE}/PA15 (io), H13 ~{DACK}/PA14 (io), J1 FC2 (io), J2 ~{CS}1 (out), J4 PB8 (io), J11 BRG1 (out), J12 NC3, J13 DISCPU (in), K1 ~{CS}0/~{IOUT}2 (out), K2 ~{RMC}/IOUT1 (out), K3 IAC (out), K4 PB9 (io), K5 ~{WDOG}/PB7 (io), K9 ~{DTACK} (io), K11 TXD1/L1TXD (out), K12 ~{RTS}1/L1RQ/GCIDCL (out), K13 BUSW (in), L1 ~{CS}2 (out), L2 PB11 (io), L4 ~{TOUT}1/PB4 (io), L5 ~{IACK}6/PB1 (io), L6 ~{LDS}/~{DS} (io), L7 XTAL, L8 ~{IPL}0/~{IRQ}1 (in), L9 ~{AVEC}/~{IOUT}0 (io), L10 NC1, L11 ~{BCLR} (io), L12 TCLK1/L1SYS0/SDS1 (io), L13 ~{CD}3/SPCLK (io), M1 ~{CS}3 (out), M2 ~{TOUT}2/PB6 (io), M3 TIN2/PB5 (io), M5 ~{IACK}7/PB0 (io), M6 ~{AS} (io), M8 CLKO (out), M9 ~{BERR} (io), M10 ~{BR} (io), M11 ~{BGACK} (io), M12 ~{BG} (io), M13 ~{RTS}3/SPTXD (out), N1 PB10 (io), N2 TIN1/PB3 (io), N3 ~{IACK}1/PB2 (io), N5 ~{UDS}/A0 (io), N6 R/~{W} (io), N7 EXTAL (in), N9 ~{IPL}1/~{IRQ}6 (in), N10 ~{IPL}2/~{IRQ}7 (in), N11 ~{RESET} (io), N12 ~{HALT} (io), N13 RCLK1/L1CLK (io)
part B pins: A4 GND (power), A7 GND (power), A11 GND (power), B5 VDD (power), C4 GND (power), C8 VDD (power), D2 GND (power), D12 GND (power), D13 VDD (power), E4 VDD (power), F1 GND (power), G13 GND (power), H2 VDD (power), J3 GND (power), J10 GND (power), K10 VDD (power), L3 GND (power), M4 VDD (power), M7 GND (power), N4 GND (power), N8 VDD (power)

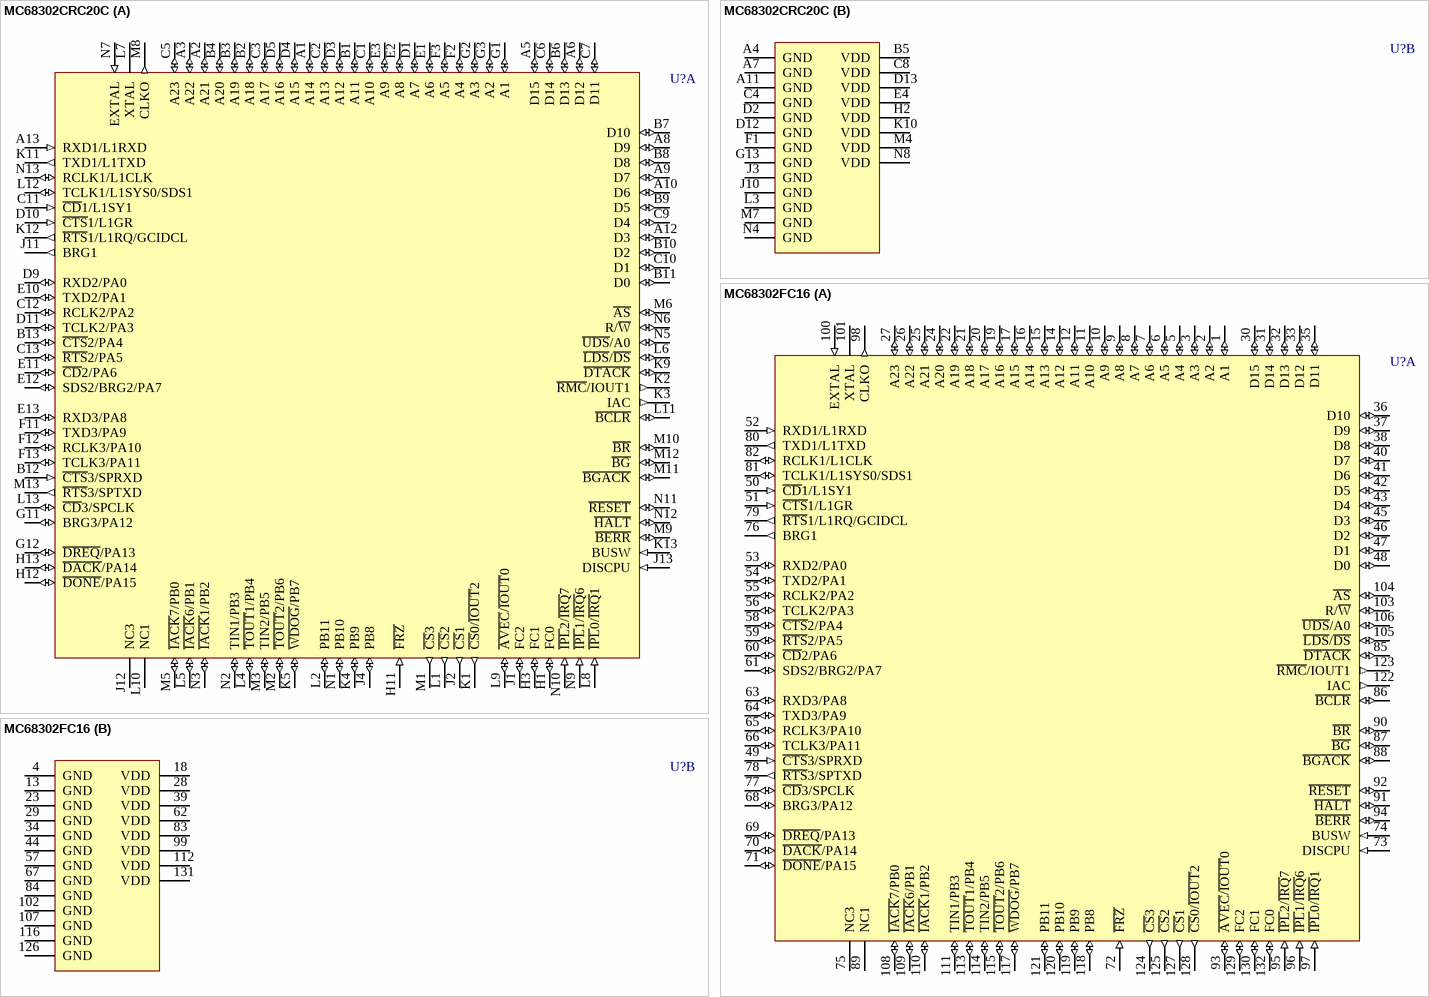
[diagram p73: symbols MC68302CRC20C to MC68302FC16]

## MC68302CRC20C
designator U?
Integrated Multiprotocol Processor; Published: 21-Mar-2003; LatestRevisionDate: 06-Jun-2005; LatestRevisionNote: Stylized 3D Model Added.; DatasheetVersion: 30-Dec-1995; PackageVersion: 1995; PackageReference: 789B-01; Publisher: Altium Limited; PackageDescription: 132-Pin Ceramic Pin Grid Array 2.54 mm Pitch; ComponentLink1Description: Manufacturer Link; ComponentLink1URL: http://www.freescale.com/
footprint 789B-01 (PGA, 132-Leads, Body 34.5x34.5mm, Pitch 2.54mm)
3D model MC68302-789B-01 (132-Pin Ceramic Pin Grid Array 2.54 mm Pitch)
part A pins: A1 A14 (io), A2 A21 (io), A3 A22 (io), A5 D15 (io), A6 D12 (io), A8 D9 (io), A9 D7 (io), A10 D6 (io), A12 D3 (io), A13 RXD1/L1RXD (in), B1 A11 (io), B2 A18 (io), B3 A19 (io), B4 A20 (io), B6 D13 (io), B7 D10 (io), B8 D8 (io), B9 D5 (io), B10 D2 (io), B11 D0 (io), B12 ~{CTS}3/SPRXD (in), B13 ~{CTS}2/PA4 (io), C1 A10 (io), C2 A13 (io), C3 A17 (io), C5 A23 (io), C6 D14 (io), C7 D11 (io), C9 D4 (io), C10 D1 (io), C11 ~{CD}1/L1SY1 (in), C12 RCLK2/PA2 (io), C13 ~{RTS}2/PA5 (io), D1 A7 (io), D3 A12 (io), D4 A15 (io), D5 A16 (io), D9 RXD2/PA0 (io), D10 ~{CTS}1/L1GR (in), D11 TCLK2/PA3 (io), E1 A6 (io), E2 A8 (io), E3 A9 (io), E10 TXD2/PA1 (io), E11 ~{CD}2/PA6 (io), E12 SDS2/BRG2/PA7 (io), E13 RXD3/PA8 (io), F2 A4 (io), F3 A5 (io), F11 TXD3/PA9 (io), F12 RCLK3/PA10 (io), F13 TCLK3/PA11 (io), G1 A1 (io), G2 A3 (io), G3 A2 (io), G11 BRG3/PA12 (io), G12 ~{DREQ}/PA13 (io), H1 FC0 (io), H3 FC1 (io), H11 ~{FRZ} (in), H12 ~{DONE}/PA15 (io), H13 ~{DACK}/PA14 (io), J1 FC2 (io), J2 ~{CS}1 (out), J4 PB8 (io), J11 BRG1 (out), J12 NC3, J13 DISCPU (in), K1 ~{CS}0/~{IOUT}2 (out), K2 ~{RMC}/IOUT1 (out), K3 IAC (out), K4 PB9 (io), K5 ~{WDOG}/PB7 (io), K9 ~{DTACK} (io), K11 TXD1/L1TXD (out), K12 ~{RTS}1/L1RQ/GCIDCL (out), K13 BUSW (in), L1 ~{CS}2 (out), L2 PB11 (io), L4 ~{TOUT}1/PB4 (io), L5 ~{IACK}6/PB1 (io), L6 ~{LDS}/~{DS} (io), L7 XTAL, L8 ~{IPL}0/~{IRQ}1 (in), L9 ~{AVEC}/~{IOUT}0 (io), L10 NC1, L11 ~{BCLR} (io), L12 TCLK1/L1SYS0/SDS1 (io), L13 ~{CD}3/SPCLK (io), M1 ~{CS}3 (out), M2 ~{TOUT}2/PB6 (io), M3 TIN2/PB5 (io), M5 ~{IACK}7/PB0 (io), M6 ~{AS} (io), M8 CLKO (out), M9 ~{BERR} (io), M10 ~{BR} (io), M11 ~{BGACK} (io), M12 ~{BG} (io), M13 ~{RTS}3/SPTXD (out), N1 PB10 (io), N2 TIN1/PB3 (io), N3 ~{IACK}1/PB2 (io), N5 ~{UDS}/A0 (io), N6 R/~{W} (io), N7 EXTAL (in), N9 ~{IPL}1/~{IRQ}6 (in), N10 ~{IPL}2/~{IRQ}7 (in), N11 ~{RESET} (io), N12 ~{HALT} (io), N13 RCLK1/L1CLK (io)
part B pins: A4 GND (power), A7 GND (power), A11 GND (power), B5 VDD (power), C4 GND (power), C8 VDD (power), D2 GND (power), D12 GND (power), D13 VDD (power), E4 VDD (power), F1 GND (power), G13 GND (power), H2 VDD (power), J3 GND (power), J10 GND (power), K10 VDD (power), L3 GND (power), M4 VDD (power), M7 GND (power), N4 GND (power), N8 VDD (power)

## MC68302FC16
designator U?
Integrated Multiprotocol Processor; Published: 21-Mar-2003; DatasheetVersion: 30-Dec-1995; PackageVersion: 1997; PackageReference: 831A-01; Publisher: Altium Limited; PackageDescription: PQFP; 132 Leads; Body 24 x 24 mm; Pitch 0.635 mm; ComponentLink1Description: Manufacturer Link; ComponentLink1URL: http://www.freescale.com/
footprint 831A-01 (PQFP; 132 Leads; Body 24 x 24 mm; Pitch 0.635 mm)
part A pins: 1 A1 (io), 2 A2 (io), 3 A3 (io), 5 A4 (io), 6 A5 (io), 7 A6 (io), 8 A7 (io), 9 A8 (io), 10 A9 (io), 11 A10 (io), 12 A11 (io), 14 A12 (io), 15 A13 (io), 16 A14 (io), 17 A15 (io), 19 A16 (io), 20 A17 (io), 21 A18 (io), 22 A19 (io), 24 A20 (io), 25 A21 (io), 26 A22 (io), 27 A23 (io), 30 D15 (io), 31 D14 (io), 32 D13 (io), 33 D12 (io), 35 D11 (io), 36 D10 (io), 37 D9 (io), 38 D8 (io), 40 D7 (io), 41 D6 (io), 42 D5 (io), 43 D4 (io), 45 D3 (io), 46 D2 (io), 47 D1 (io), 48 D0 (io), 49 ~{CTS}3/SPRXD (in), 50 ~{CD}1/L1SY1 (in), 51 ~{CTS}1/L1GR (in), 52 RXD1/L1RXD (in), 53 RXD2/PA0 (io), 54 TXD2/PA1 (io), 55 RCLK2/PA2 (io), 56 TCLK2/PA3 (io), 58 ~{CTS}2/PA4 (io), 59 ~{RTS}2/PA5 (io), 60 ~{CD}2/PA6 (io), 61 SDS2/BRG2/PA7 (io), 63 RXD3/PA8 (io), 64 TXD3/PA9 (io), 65 RCLK3/PA10 (io), 66 TCLK3/PA11 (io), 68 BRG3/PA12 (io), 69 ~{DREQ}/PA13 (io), 70 ~{DACK}/PA14 (io), 71 ~{DONE}/PA15 (io), 72 ~{FRZ} (in), 73 DISCPU (in), 74 BUSW (in), 75 NC3, 76 BRG1 (out), 77 ~{CD}3/SPCLK (io), 78 ~{RTS}3/SPTXD (out), 79 ~{RTS}1/L1RQ/GCIDCL (out), 80 TXD1/L1TXD (out), 81 TCLK1/L1SYS0/SDS1 (io), 82 RCLK1/L1CLK (io), 85 ~{DTACK} (io), 86 ~{BCLR} (io), 87 ~{BG} (io), 88 ~{BGACK} (io), 89 NC1, 90 ~{BR} (io), 91 ~{HALT} (io), 92 ~{RESET} (io), 93 ~{AVEC}/~{IOUT}0 (io), 94 ~{BERR} (io), 95 ~{IPL}2/~{IRQ}7 (in), 96 ~{IPL}1/~{IRQ}6 (in), 97 ~{IPL}0/~{IRQ}1 (in), 98 CLKO (out), 100 EXTAL (in), 101 XTAL, 103 R/~{W} (io), 104 ~{AS} (io), 105 ~{LDS}/~{DS} (io), 106 ~{UDS}/A0 (io), 108 ~{IACK}7/PB0 (io), 109 ~{IACK}6/PB1 (io), 110 ~{IACK}1/PB2 (io), 111 TIN1/PB3 (io), 113 ~{TOUT}1/PB4 (io), 114 TIN2/PB5 (io), 115 ~{TOUT}2/PB6 (io), 117 ~{WDOG}/PB7 (io), 118 PB8 (io), 119 PB9 (io), 120 PB10 (io), 121 PB11 (io), 122 IAC (out), 123 ~{RMC}/IOUT1 (out), 124 ~{CS}3 (out), 125 ~{CS}2 (out), 127 ~{CS}1 (out), 128 ~{CS}0/~{IOUT}2 (out), 129 FC2 (io), 130 FC1 (io), 132 FC0 (io)
part B pins: 4 GND (power), 13 GND (power), 18 VDD (power), 23 GND (power), 28 VDD (power), 29 GND (power), 34 GND (power), 39 VDD (power), 44 GND (power), 57 GND (power), 62 VDD (power), 67 GND (power), 83 VDD (power), 84 GND (power), 99 VDD (power), 102 GND (power), 107 GND (power), 112 VDD (power), 116 GND (power), 126 GND (power), 131 VDD (power)

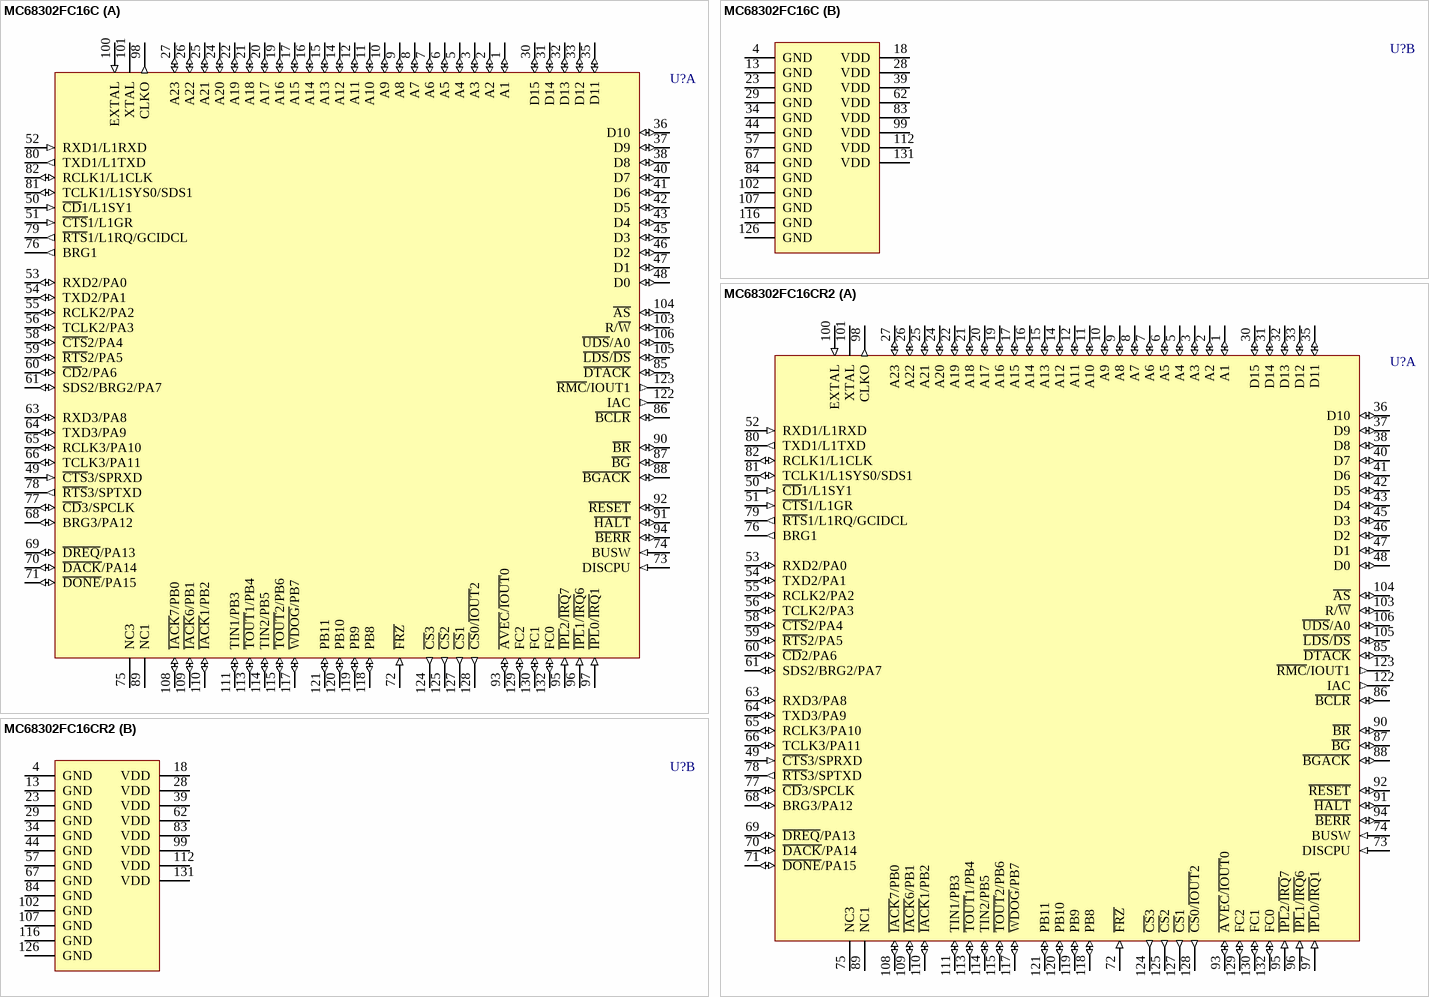
[diagram p74: symbols MC68302FC16C to MC68302FC16CR2]

## MC68302FC16C
designator U?
Integrated Multiprotocol Processor; Published: 21-Mar-2003; DatasheetVersion: 30-Dec-1995; PackageVersion: 1997; PackageReference: 831A-01; Publisher: Altium Limited; PackageDescription: PQFP; 132 Leads; Body 24 x 24 mm; Pitch 0.635 mm; ComponentLink1Description: Manufacturer Link; ComponentLink1URL: http://www.freescale.com/
footprint 831A-01 (PQFP; 132 Leads; Body 24 x 24 mm; Pitch 0.635 mm)
part A pins: 1 A1 (io), 2 A2 (io), 3 A3 (io), 5 A4 (io), 6 A5 (io), 7 A6 (io), 8 A7 (io), 9 A8 (io), 10 A9 (io), 11 A10 (io), 12 A11 (io), 14 A12 (io), 15 A13 (io), 16 A14 (io), 17 A15 (io), 19 A16 (io), 20 A17 (io), 21 A18 (io), 22 A19 (io), 24 A20 (io), 25 A21 (io), 26 A22 (io), 27 A23 (io), 30 D15 (io), 31 D14 (io), 32 D13 (io), 33 D12 (io), 35 D11 (io), 36 D10 (io), 37 D9 (io), 38 D8 (io), 40 D7 (io), 41 D6 (io), 42 D5 (io), 43 D4 (io), 45 D3 (io), 46 D2 (io), 47 D1 (io), 48 D0 (io), 49 ~{CTS}3/SPRXD (in), 50 ~{CD}1/L1SY1 (in), 51 ~{CTS}1/L1GR (in), 52 RXD1/L1RXD (in), 53 RXD2/PA0 (io), 54 TXD2/PA1 (io), 55 RCLK2/PA2 (io), 56 TCLK2/PA3 (io), 58 ~{CTS}2/PA4 (io), 59 ~{RTS}2/PA5 (io), 60 ~{CD}2/PA6 (io), 61 SDS2/BRG2/PA7 (io), 63 RXD3/PA8 (io), 64 TXD3/PA9 (io), 65 RCLK3/PA10 (io), 66 TCLK3/PA11 (io), 68 BRG3/PA12 (io), 69 ~{DREQ}/PA13 (io), 70 ~{DACK}/PA14 (io), 71 ~{DONE}/PA15 (io), 72 ~{FRZ} (in), 73 DISCPU (in), 74 BUSW (in), 75 NC3, 76 BRG1 (out), 77 ~{CD}3/SPCLK (io), 78 ~{RTS}3/SPTXD (out), 79 ~{RTS}1/L1RQ/GCIDCL (out), 80 TXD1/L1TXD (out), 81 TCLK1/L1SYS0/SDS1 (io), 82 RCLK1/L1CLK (io), 85 ~{DTACK} (io), 86 ~{BCLR} (io), 87 ~{BG} (io), 88 ~{BGACK} (io), 89 NC1, 90 ~{BR} (io), 91 ~{HALT} (io), 92 ~{RESET} (io), 93 ~{AVEC}/~{IOUT}0 (io), 94 ~{BERR} (io), 95 ~{IPL}2/~{IRQ}7 (in), 96 ~{IPL}1/~{IRQ}6 (in), 97 ~{IPL}0/~{IRQ}1 (in), 98 CLKO (out), 100 EXTAL (in), 101 XTAL, 103 R/~{W} (io), 104 ~{AS} (io), 105 ~{LDS}/~{DS} (io), 106 ~{UDS}/A0 (io), 108 ~{IACK}7/PB0 (io), 109 ~{IACK}6/PB1 (io), 110 ~{IACK}1/PB2 (io), 111 TIN1/PB3 (io), 113 ~{TOUT}1/PB4 (io), 114 TIN2/PB5 (io), 115 ~{TOUT}2/PB6 (io), 117 ~{WDOG}/PB7 (io), 118 PB8 (io), 119 PB9 (io), 120 PB10 (io), 121 PB11 (io), 122 IAC (out), 123 ~{RMC}/IOUT1 (out), 124 ~{CS}3 (out), 125 ~{CS}2 (out), 127 ~{CS}1 (out), 128 ~{CS}0/~{IOUT}2 (out), 129 FC2 (io), 130 FC1 (io), 132 FC0 (io)
part B pins: 4 GND (power), 13 GND (power), 18 VDD (power), 23 GND (power), 28 VDD (power), 29 GND (power), 34 GND (power), 39 VDD (power), 44 GND (power), 57 GND (power), 62 VDD (power), 67 GND (power), 83 VDD (power), 84 GND (power), 99 VDD (power), 102 GND (power), 107 GND (power), 112 VDD (power), 116 GND (power), 126 GND (power), 131 VDD (power)

## MC68302FC16CR2
designator U?
Integrated Multiprotocol Processor; Published: 21-Mar-2003; DatasheetVersion: 30-Dec-1995; PackageVersion: 1997; PackageReference: 831A-01; Publisher: Altium Limited; PackageDescription: PQFP; 132 Leads; Body 24 x 24 mm; Pitch 0.635 mm; ComponentLink1Description: Manufacturer Link; ComponentLink1URL: http://www.freescale.com/
footprint 831A-01 (PQFP; 132 Leads; Body 24 x 24 mm; Pitch 0.635 mm)
part A pins: 1 A1 (io), 2 A2 (io), 3 A3 (io), 5 A4 (io), 6 A5 (io), 7 A6 (io), 8 A7 (io), 9 A8 (io), 10 A9 (io), 11 A10 (io), 12 A11 (io), 14 A12 (io), 15 A13 (io), 16 A14 (io), 17 A15 (io), 19 A16 (io), 20 A17 (io), 21 A18 (io), 22 A19 (io), 24 A20 (io), 25 A21 (io), 26 A22 (io), 27 A23 (io), 30 D15 (io), 31 D14 (io), 32 D13 (io), 33 D12 (io), 35 D11 (io), 36 D10 (io), 37 D9 (io), 38 D8 (io), 40 D7 (io), 41 D6 (io), 42 D5 (io), 43 D4 (io), 45 D3 (io), 46 D2 (io), 47 D1 (io), 48 D0 (io), 49 ~{CTS}3/SPRXD (in), 50 ~{CD}1/L1SY1 (in), 51 ~{CTS}1/L1GR (in), 52 RXD1/L1RXD (in), 53 RXD2/PA0 (io), 54 TXD2/PA1 (io), 55 RCLK2/PA2 (io), 56 TCLK2/PA3 (io), 58 ~{CTS}2/PA4 (io), 59 ~{RTS}2/PA5 (io), 60 ~{CD}2/PA6 (io), 61 SDS2/BRG2/PA7 (io), 63 RXD3/PA8 (io), 64 TXD3/PA9 (io), 65 RCLK3/PA10 (io), 66 TCLK3/PA11 (io), 68 BRG3/PA12 (io), 69 ~{DREQ}/PA13 (io), 70 ~{DACK}/PA14 (io), 71 ~{DONE}/PA15 (io), 72 ~{FRZ} (in), 73 DISCPU (in), 74 BUSW (in), 75 NC3, 76 BRG1 (out), 77 ~{CD}3/SPCLK (io), 78 ~{RTS}3/SPTXD (out), 79 ~{RTS}1/L1RQ/GCIDCL (out), 80 TXD1/L1TXD (out), 81 TCLK1/L1SYS0/SDS1 (io), 82 RCLK1/L1CLK (io), 85 ~{DTACK} (io), 86 ~{BCLR} (io), 87 ~{BG} (io), 88 ~{BGACK} (io), 89 NC1, 90 ~{BR} (io), 91 ~{HALT} (io), 92 ~{RESET} (io), 93 ~{AVEC}/~{IOUT}0 (io), 94 ~{BERR} (io), 95 ~{IPL}2/~{IRQ}7 (in), 96 ~{IPL}1/~{IRQ}6 (in), 97 ~{IPL}0/~{IRQ}1 (in), 98 CLKO (out), 100 EXTAL (in), 101 XTAL, 103 R/~{W} (io), 104 ~{AS} (io), 105 ~{LDS}/~{DS} (io), 106 ~{UDS}/A0 (io), 108 ~{IACK}7/PB0 (io), 109 ~{IACK}6/PB1 (io), 110 ~{IACK}1/PB2 (io), 111 TIN1/PB3 (io), 113 ~{TOUT}1/PB4 (io), 114 TIN2/PB5 (io), 115 ~{TOUT}2/PB6 (io), 117 ~{WDOG}/PB7 (io), 118 PB8 (io), 119 PB9 (io), 120 PB10 (io), 121 PB11 (io), 122 IAC (out), 123 ~{RMC}/IOUT1 (out), 124 ~{CS}3 (out), 125 ~{CS}2 (out), 127 ~{CS}1 (out), 128 ~{CS}0/~{IOUT}2 (out), 129 FC2 (io), 130 FC1 (io), 132 FC0 (io)
part B pins: 4 GND (power), 13 GND (power), 18 VDD (power), 23 GND (power), 28 VDD (power), 29 GND (power), 34 GND (power), 39 VDD (power), 44 GND (power), 57 GND (power), 62 VDD (power), 67 GND (power), 83 VDD (power), 84 GND (power), 99 VDD (power), 102 GND (power), 107 GND (power), 112 VDD (power), 116 GND (power), 126 GND (power), 131 VDD (power)

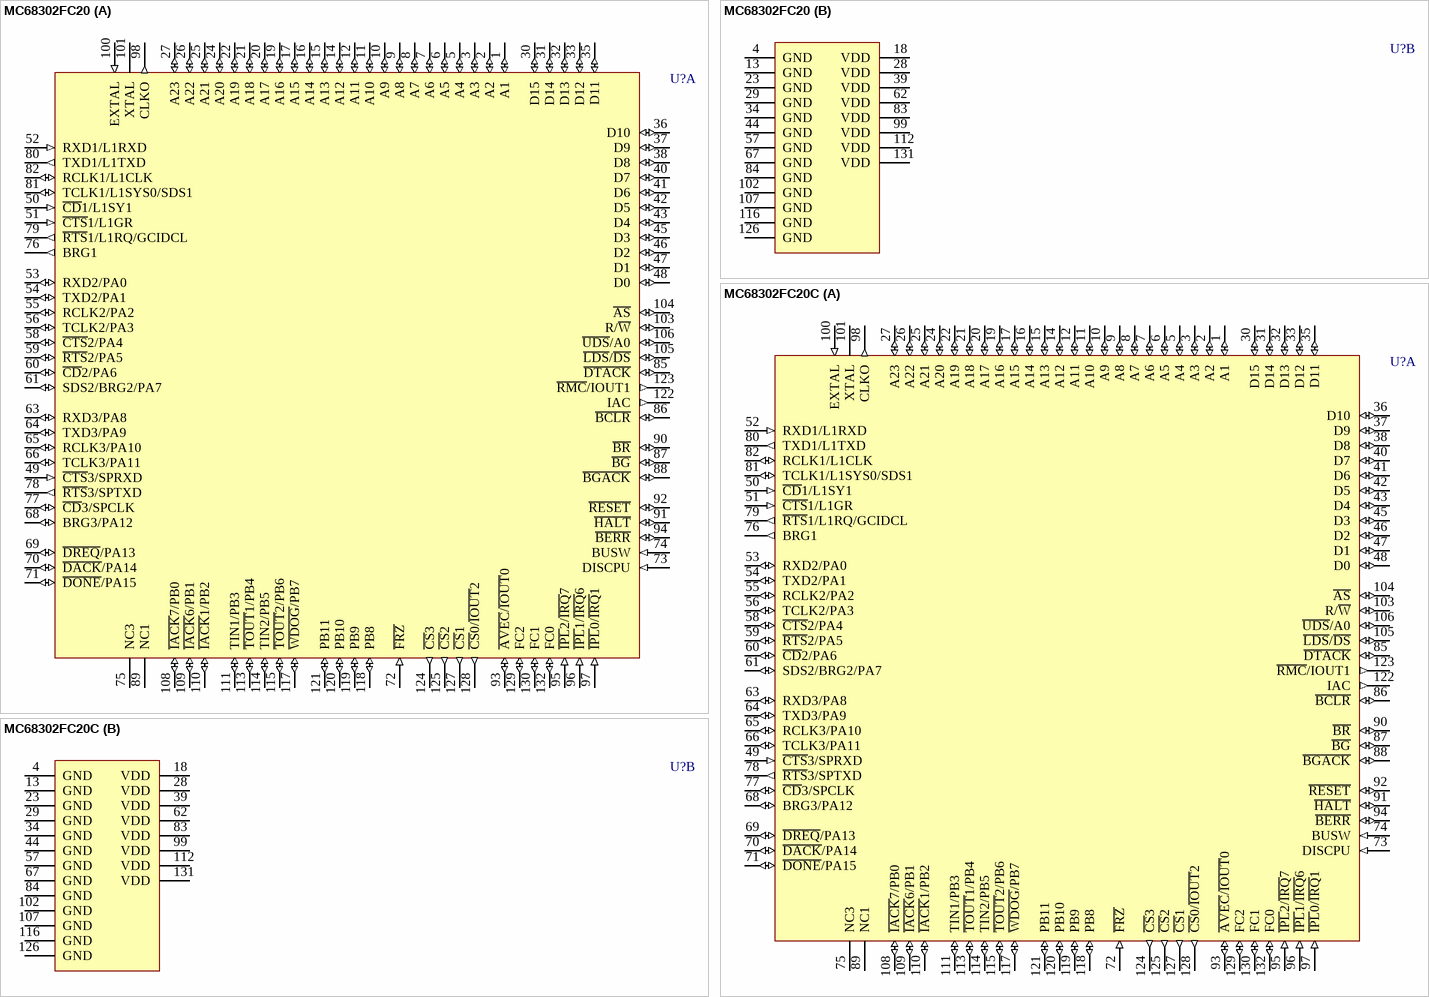
[diagram p75: symbols MC68302FC20 to MC68302FC20C]

## MC68302FC20
designator U?
Integrated Multiprotocol Processor; Published: 21-Mar-2003; DatasheetVersion: 30-Dec-1995; PackageVersion: 1997; PackageReference: 831A-01; Publisher: Altium Limited; PackageDescription: PQFP; 132 Leads; Body 24 x 24 mm; Pitch 0.635 mm; ComponentLink1Description: Manufacturer Link; ComponentLink1URL: http://www.freescale.com/; ComponentLink2Description: Datasheet; ComponentLink2URL: http://www.freescale.com/files/32bit/doc/ref_manual/MC68302UM.pdf
footprint 831A-01 (PQFP; 132 Leads; Body 24 x 24 mm; Pitch 0.635 mm)
part A pins: 1 A1 (io), 2 A2 (io), 3 A3 (io), 5 A4 (io), 6 A5 (io), 7 A6 (io), 8 A7 (io), 9 A8 (io), 10 A9 (io), 11 A10 (io), 12 A11 (io), 14 A12 (io), 15 A13 (io), 16 A14 (io), 17 A15 (io), 19 A16 (io), 20 A17 (io), 21 A18 (io), 22 A19 (io), 24 A20 (io), 25 A21 (io), 26 A22 (io), 27 A23 (io), 30 D15 (io), 31 D14 (io), 32 D13 (io), 33 D12 (io), 35 D11 (io), 36 D10 (io), 37 D9 (io), 38 D8 (io), 40 D7 (io), 41 D6 (io), 42 D5 (io), 43 D4 (io), 45 D3 (io), 46 D2 (io), 47 D1 (io), 48 D0 (io), 49 ~{CTS}3/SPRXD (in), 50 ~{CD}1/L1SY1 (in), 51 ~{CTS}1/L1GR (in), 52 RXD1/L1RXD (in), 53 RXD2/PA0 (io), 54 TXD2/PA1 (io), 55 RCLK2/PA2 (io), 56 TCLK2/PA3 (io), 58 ~{CTS}2/PA4 (io), 59 ~{RTS}2/PA5 (io), 60 ~{CD}2/PA6 (io), 61 SDS2/BRG2/PA7 (io), 63 RXD3/PA8 (io), 64 TXD3/PA9 (io), 65 RCLK3/PA10 (io), 66 TCLK3/PA11 (io), 68 BRG3/PA12 (io), 69 ~{DREQ}/PA13 (io), 70 ~{DACK}/PA14 (io), 71 ~{DONE}/PA15 (io), 72 ~{FRZ} (in), 73 DISCPU (in), 74 BUSW (in), 75 NC3, 76 BRG1 (out), 77 ~{CD}3/SPCLK (io), 78 ~{RTS}3/SPTXD (out), 79 ~{RTS}1/L1RQ/GCIDCL (out), 80 TXD1/L1TXD (out), 81 TCLK1/L1SYS0/SDS1 (io), 82 RCLK1/L1CLK (io), 85 ~{DTACK} (io), 86 ~{BCLR} (io), 87 ~{BG} (io), 88 ~{BGACK} (io), 89 NC1, 90 ~{BR} (io), 91 ~{HALT} (io), 92 ~{RESET} (io), 93 ~{AVEC}/~{IOUT}0 (io), 94 ~{BERR} (io), 95 ~{IPL}2/~{IRQ}7 (in), 96 ~{IPL}1/~{IRQ}6 (in), 97 ~{IPL}0/~{IRQ}1 (in), 98 CLKO (out), 100 EXTAL (in), 101 XTAL, 103 R/~{W} (io), 104 ~{AS} (io), 105 ~{LDS}/~{DS} (io), 106 ~{UDS}/A0 (io), 108 ~{IACK}7/PB0 (io), 109 ~{IACK}6/PB1 (io), 110 ~{IACK}1/PB2 (io), 111 TIN1/PB3 (io), 113 ~{TOUT}1/PB4 (io), 114 TIN2/PB5 (io), 115 ~{TOUT}2/PB6 (io), 117 ~{WDOG}/PB7 (io), 118 PB8 (io), 119 PB9 (io), 120 PB10 (io), 121 PB11 (io), 122 IAC (out), 123 ~{RMC}/IOUT1 (out), 124 ~{CS}3 (out), 125 ~{CS}2 (out), 127 ~{CS}1 (out), 128 ~{CS}0/~{IOUT}2 (out), 129 FC2 (io), 130 FC1 (io), 132 FC0 (io)
part B pins: 4 GND (power), 13 GND (power), 18 VDD (power), 23 GND (power), 28 VDD (power), 29 GND (power), 34 GND (power), 39 VDD (power), 44 GND (power), 57 GND (power), 62 VDD (power), 67 GND (power), 83 VDD (power), 84 GND (power), 99 VDD (power), 102 GND (power), 107 GND (power), 112 VDD (power), 116 GND (power), 126 GND (power), 131 VDD (power)

## MC68302FC20C
designator U?
Integrated Multiprotocol Processor; Published: 21-Mar-2003; DatasheetVersion: 30-Dec-1995; PackageVersion: 1997; PackageReference: 831A-01; Publisher: Altium Limited; PackageDescription: PQFP; 132 Leads; Body 24 x 24 mm; Pitch 0.635 mm; ComponentLink1Description: Manufacturer Link; ComponentLink1URL: http://www.freescale.com/
footprint 831A-01 (PQFP; 132 Leads; Body 24 x 24 mm; Pitch 0.635 mm)
part A pins: 1 A1 (io), 2 A2 (io), 3 A3 (io), 5 A4 (io), 6 A5 (io), 7 A6 (io), 8 A7 (io), 9 A8 (io), 10 A9 (io), 11 A10 (io), 12 A11 (io), 14 A12 (io), 15 A13 (io), 16 A14 (io), 17 A15 (io), 19 A16 (io), 20 A17 (io), 21 A18 (io), 22 A19 (io), 24 A20 (io), 25 A21 (io), 26 A22 (io), 27 A23 (io), 30 D15 (io), 31 D14 (io), 32 D13 (io), 33 D12 (io), 35 D11 (io), 36 D10 (io), 37 D9 (io), 38 D8 (io), 40 D7 (io), 41 D6 (io), 42 D5 (io), 43 D4 (io), 45 D3 (io), 46 D2 (io), 47 D1 (io), 48 D0 (io), 49 ~{CTS}3/SPRXD (in), 50 ~{CD}1/L1SY1 (in), 51 ~{CTS}1/L1GR (in), 52 RXD1/L1RXD (in), 53 RXD2/PA0 (io), 54 TXD2/PA1 (io), 55 RCLK2/PA2 (io), 56 TCLK2/PA3 (io), 58 ~{CTS}2/PA4 (io), 59 ~{RTS}2/PA5 (io), 60 ~{CD}2/PA6 (io), 61 SDS2/BRG2/PA7 (io), 63 RXD3/PA8 (io), 64 TXD3/PA9 (io), 65 RCLK3/PA10 (io), 66 TCLK3/PA11 (io), 68 BRG3/PA12 (io), 69 ~{DREQ}/PA13 (io), 70 ~{DACK}/PA14 (io), 71 ~{DONE}/PA15 (io), 72 ~{FRZ} (in), 73 DISCPU (in), 74 BUSW (in), 75 NC3, 76 BRG1 (out), 77 ~{CD}3/SPCLK (io), 78 ~{RTS}3/SPTXD (out), 79 ~{RTS}1/L1RQ/GCIDCL (out), 80 TXD1/L1TXD (out), 81 TCLK1/L1SYS0/SDS1 (io), 82 RCLK1/L1CLK (io), 85 ~{DTACK} (io), 86 ~{BCLR} (io), 87 ~{BG} (io), 88 ~{BGACK} (io), 89 NC1, 90 ~{BR} (io), 91 ~{HALT} (io), 92 ~{RESET} (io), 93 ~{AVEC}/~{IOUT}0 (io), 94 ~{BERR} (io), 95 ~{IPL}2/~{IRQ}7 (in), 96 ~{IPL}1/~{IRQ}6 (in), 97 ~{IPL}0/~{IRQ}1 (in), 98 CLKO (out), 100 EXTAL (in), 101 XTAL, 103 R/~{W} (io), 104 ~{AS} (io), 105 ~{LDS}/~{DS} (io), 106 ~{UDS}/A0 (io), 108 ~{IACK}7/PB0 (io), 109 ~{IACK}6/PB1 (io), 110 ~{IACK}1/PB2 (io), 111 TIN1/PB3 (io), 113 ~{TOUT}1/PB4 (io), 114 TIN2/PB5 (io), 115 ~{TOUT}2/PB6 (io), 117 ~{WDOG}/PB7 (io), 118 PB8 (io), 119 PB9 (io), 120 PB10 (io), 121 PB11 (io), 122 IAC (out), 123 ~{RMC}/IOUT1 (out), 124 ~{CS}3 (out), 125 ~{CS}2 (out), 127 ~{CS}1 (out), 128 ~{CS}0/~{IOUT}2 (out), 129 FC2 (io), 130 FC1 (io), 132 FC0 (io)
part B pins: 4 GND (power), 13 GND (power), 18 VDD (power), 23 GND (power), 28 VDD (power), 29 GND (power), 34 GND (power), 39 VDD (power), 44 GND (power), 57 GND (power), 62 VDD (power), 67 GND (power), 83 VDD (power), 84 GND (power), 99 VDD (power), 102 GND (power), 107 GND (power), 112 VDD (power), 116 GND (power), 126 GND (power), 131 VDD (power)

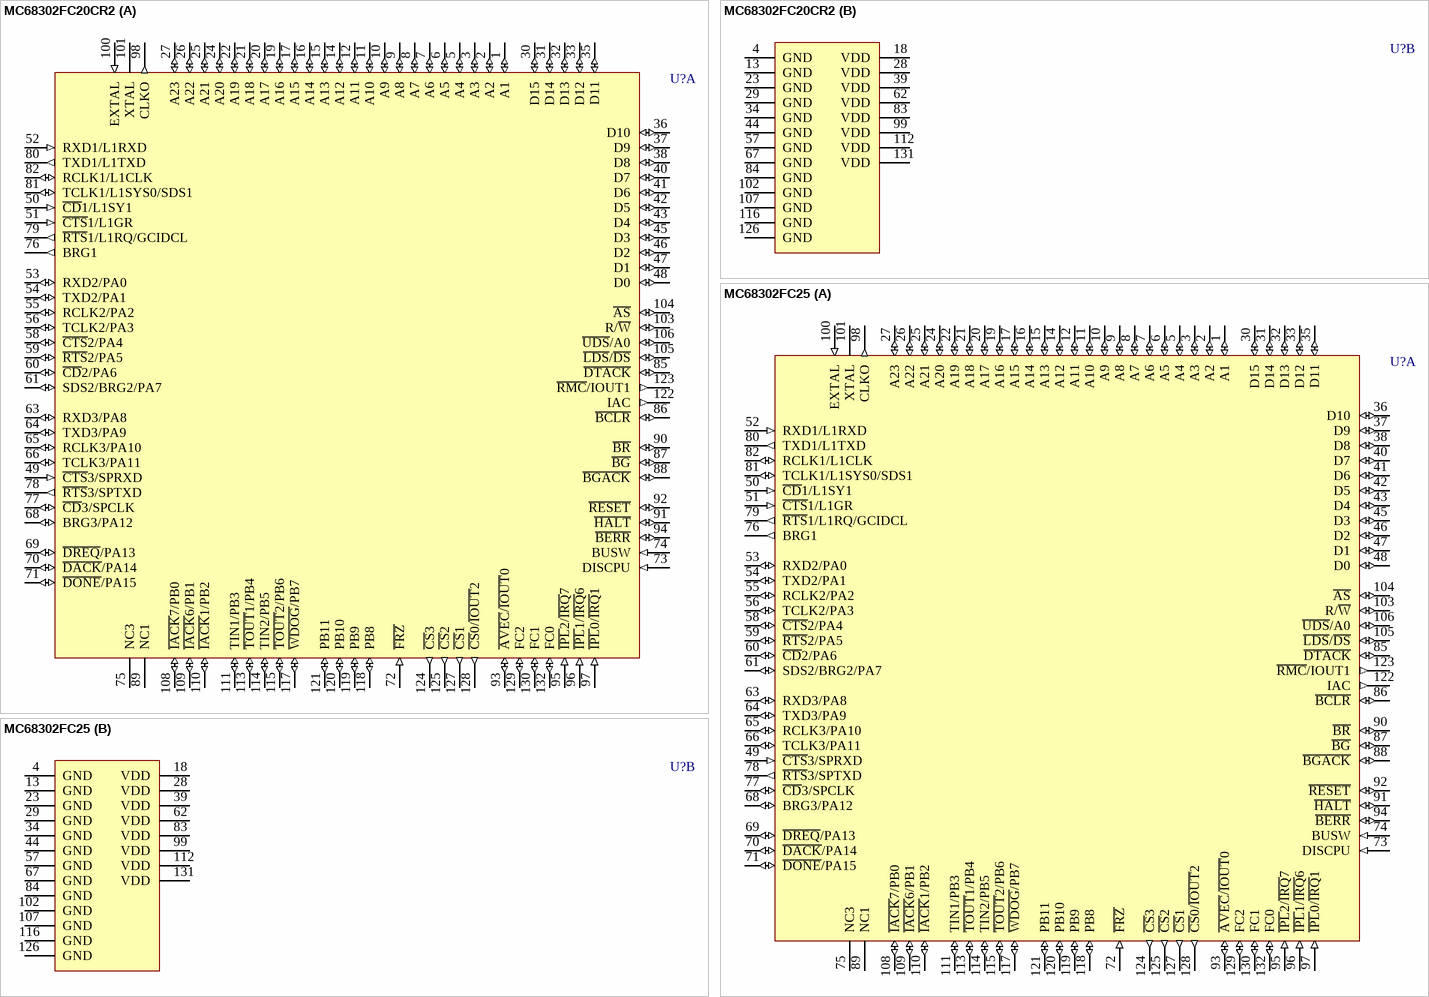
[diagram p76: symbols MC68302FC20CR2 to MC68302FC25]

## MC68302FC20CR2
designator U?
Integrated Multiprotocol Processor; Published: 21-Mar-2003; DatasheetVersion: 30-Dec-1995; PackageVersion: 1997; PackageReference: 831A-01; Publisher: Altium Limited; PackageDescription: PQFP; 132 Leads; Body 24 x 24 mm; Pitch 0.635 mm; ComponentLink1Description: Manufacturer Link; ComponentLink1URL: http://www.freescale.com/
footprint 831A-01 (PQFP; 132 Leads; Body 24 x 24 mm; Pitch 0.635 mm)
part A pins: 1 A1 (io), 2 A2 (io), 3 A3 (io), 5 A4 (io), 6 A5 (io), 7 A6 (io), 8 A7 (io), 9 A8 (io), 10 A9 (io), 11 A10 (io), 12 A11 (io), 14 A12 (io), 15 A13 (io), 16 A14 (io), 17 A15 (io), 19 A16 (io), 20 A17 (io), 21 A18 (io), 22 A19 (io), 24 A20 (io), 25 A21 (io), 26 A22 (io), 27 A23 (io), 30 D15 (io), 31 D14 (io), 32 D13 (io), 33 D12 (io), 35 D11 (io), 36 D10 (io), 37 D9 (io), 38 D8 (io), 40 D7 (io), 41 D6 (io), 42 D5 (io), 43 D4 (io), 45 D3 (io), 46 D2 (io), 47 D1 (io), 48 D0 (io), 49 ~{CTS}3/SPRXD (in), 50 ~{CD}1/L1SY1 (in), 51 ~{CTS}1/L1GR (in), 52 RXD1/L1RXD (in), 53 RXD2/PA0 (io), 54 TXD2/PA1 (io), 55 RCLK2/PA2 (io), 56 TCLK2/PA3 (io), 58 ~{CTS}2/PA4 (io), 59 ~{RTS}2/PA5 (io), 60 ~{CD}2/PA6 (io), 61 SDS2/BRG2/PA7 (io), 63 RXD3/PA8 (io), 64 TXD3/PA9 (io), 65 RCLK3/PA10 (io), 66 TCLK3/PA11 (io), 68 BRG3/PA12 (io), 69 ~{DREQ}/PA13 (io), 70 ~{DACK}/PA14 (io), 71 ~{DONE}/PA15 (io), 72 ~{FRZ} (in), 73 DISCPU (in), 74 BUSW (in), 75 NC3, 76 BRG1 (out), 77 ~{CD}3/SPCLK (io), 78 ~{RTS}3/SPTXD (out), 79 ~{RTS}1/L1RQ/GCIDCL (out), 80 TXD1/L1TXD (out), 81 TCLK1/L1SYS0/SDS1 (io), 82 RCLK1/L1CLK (io), 85 ~{DTACK} (io), 86 ~{BCLR} (io), 87 ~{BG} (io), 88 ~{BGACK} (io), 89 NC1, 90 ~{BR} (io), 91 ~{HALT} (io), 92 ~{RESET} (io), 93 ~{AVEC}/~{IOUT}0 (io), 94 ~{BERR} (io), 95 ~{IPL}2/~{IRQ}7 (in), 96 ~{IPL}1/~{IRQ}6 (in), 97 ~{IPL}0/~{IRQ}1 (in), 98 CLKO (out), 100 EXTAL (in), 101 XTAL, 103 R/~{W} (io), 104 ~{AS} (io), 105 ~{LDS}/~{DS} (io), 106 ~{UDS}/A0 (io), 108 ~{IACK}7/PB0 (io), 109 ~{IACK}6/PB1 (io), 110 ~{IACK}1/PB2 (io), 111 TIN1/PB3 (io), 113 ~{TOUT}1/PB4 (io), 114 TIN2/PB5 (io), 115 ~{TOUT}2/PB6 (io), 117 ~{WDOG}/PB7 (io), 118 PB8 (io), 119 PB9 (io), 120 PB10 (io), 121 PB11 (io), 122 IAC (out), 123 ~{RMC}/IOUT1 (out), 124 ~{CS}3 (out), 125 ~{CS}2 (out), 127 ~{CS}1 (out), 128 ~{CS}0/~{IOUT}2 (out), 129 FC2 (io), 130 FC1 (io), 132 FC0 (io)
part B pins: 4 GND (power), 13 GND (power), 18 VDD (power), 23 GND (power), 28 VDD (power), 29 GND (power), 34 GND (power), 39 VDD (power), 44 GND (power), 57 GND (power), 62 VDD (power), 67 GND (power), 83 VDD (power), 84 GND (power), 99 VDD (power), 102 GND (power), 107 GND (power), 112 VDD (power), 116 GND (power), 126 GND (power), 131 VDD (power)

## MC68302FC25
designator U?
Integrated Multiprotocol Processor; Published: 21-Mar-2003; DatasheetVersion: 30-Dec-1995; PackageVersion: 1997; PackageReference: 831A-01; Publisher: Altium Limited; PackageDescription: PQFP; 132 Leads; Body 24 x 24 mm; Pitch 0.635 mm; ComponentLink1Description: Manufacturer Link; ComponentLink1URL: http://www.freescale.com/; ComponentLink2Description: Datasheet; ComponentLink2URL: http://www.freescale.com/files/32bit/doc/ref_manual/MC68302UM.pdf
footprint 831A-01 (PQFP; 132 Leads; Body 24 x 24 mm; Pitch 0.635 mm)
part A pins: 1 A1 (io), 2 A2 (io), 3 A3 (io), 5 A4 (io), 6 A5 (io), 7 A6 (io), 8 A7 (io), 9 A8 (io), 10 A9 (io), 11 A10 (io), 12 A11 (io), 14 A12 (io), 15 A13 (io), 16 A14 (io), 17 A15 (io), 19 A16 (io), 20 A17 (io), 21 A18 (io), 22 A19 (io), 24 A20 (io), 25 A21 (io), 26 A22 (io), 27 A23 (io), 30 D15 (io), 31 D14 (io), 32 D13 (io), 33 D12 (io), 35 D11 (io), 36 D10 (io), 37 D9 (io), 38 D8 (io), 40 D7 (io), 41 D6 (io), 42 D5 (io), 43 D4 (io), 45 D3 (io), 46 D2 (io), 47 D1 (io), 48 D0 (io), 49 ~{CTS}3/SPRXD (in), 50 ~{CD}1/L1SY1 (in), 51 ~{CTS}1/L1GR (in), 52 RXD1/L1RXD (in), 53 RXD2/PA0 (io), 54 TXD2/PA1 (io), 55 RCLK2/PA2 (io), 56 TCLK2/PA3 (io), 58 ~{CTS}2/PA4 (io), 59 ~{RTS}2/PA5 (io), 60 ~{CD}2/PA6 (io), 61 SDS2/BRG2/PA7 (io), 63 RXD3/PA8 (io), 64 TXD3/PA9 (io), 65 RCLK3/PA10 (io), 66 TCLK3/PA11 (io), 68 BRG3/PA12 (io), 69 ~{DREQ}/PA13 (io), 70 ~{DACK}/PA14 (io), 71 ~{DONE}/PA15 (io), 72 ~{FRZ} (in), 73 DISCPU (in), 74 BUSW (in), 75 NC3, 76 BRG1 (out), 77 ~{CD}3/SPCLK (io), 78 ~{RTS}3/SPTXD (out), 79 ~{RTS}1/L1RQ/GCIDCL (out), 80 TXD1/L1TXD (out), 81 TCLK1/L1SYS0/SDS1 (io), 82 RCLK1/L1CLK (io), 85 ~{DTACK} (io), 86 ~{BCLR} (io), 87 ~{BG} (io), 88 ~{BGACK} (io), 89 NC1, 90 ~{BR} (io), 91 ~{HALT} (io), 92 ~{RESET} (io), 93 ~{AVEC}/~{IOUT}0 (io), 94 ~{BERR} (io), 95 ~{IPL}2/~{IRQ}7 (in), 96 ~{IPL}1/~{IRQ}6 (in), 97 ~{IPL}0/~{IRQ}1 (in), 98 CLKO (out), 100 EXTAL (in), 101 XTAL, 103 R/~{W} (io), 104 ~{AS} (io), 105 ~{LDS}/~{DS} (io), 106 ~{UDS}/A0 (io), 108 ~{IACK}7/PB0 (io), 109 ~{IACK}6/PB1 (io), 110 ~{IACK}1/PB2 (io), 111 TIN1/PB3 (io), 113 ~{TOUT}1/PB4 (io), 114 TIN2/PB5 (io), 115 ~{TOUT}2/PB6 (io), 117 ~{WDOG}/PB7 (io), 118 PB8 (io), 119 PB9 (io), 120 PB10 (io), 121 PB11 (io), 122 IAC (out), 123 ~{RMC}/IOUT1 (out), 124 ~{CS}3 (out), 125 ~{CS}2 (out), 127 ~{CS}1 (out), 128 ~{CS}0/~{IOUT}2 (out), 129 FC2 (io), 130 FC1 (io), 132 FC0 (io)
part B pins: 4 GND (power), 13 GND (power), 18 VDD (power), 23 GND (power), 28 VDD (power), 29 GND (power), 34 GND (power), 39 VDD (power), 44 GND (power), 57 GND (power), 62 VDD (power), 67 GND (power), 83 VDD (power), 84 GND (power), 99 VDD (power), 102 GND (power), 107 GND (power), 112 VDD (power), 116 GND (power), 126 GND (power), 131 VDD (power)

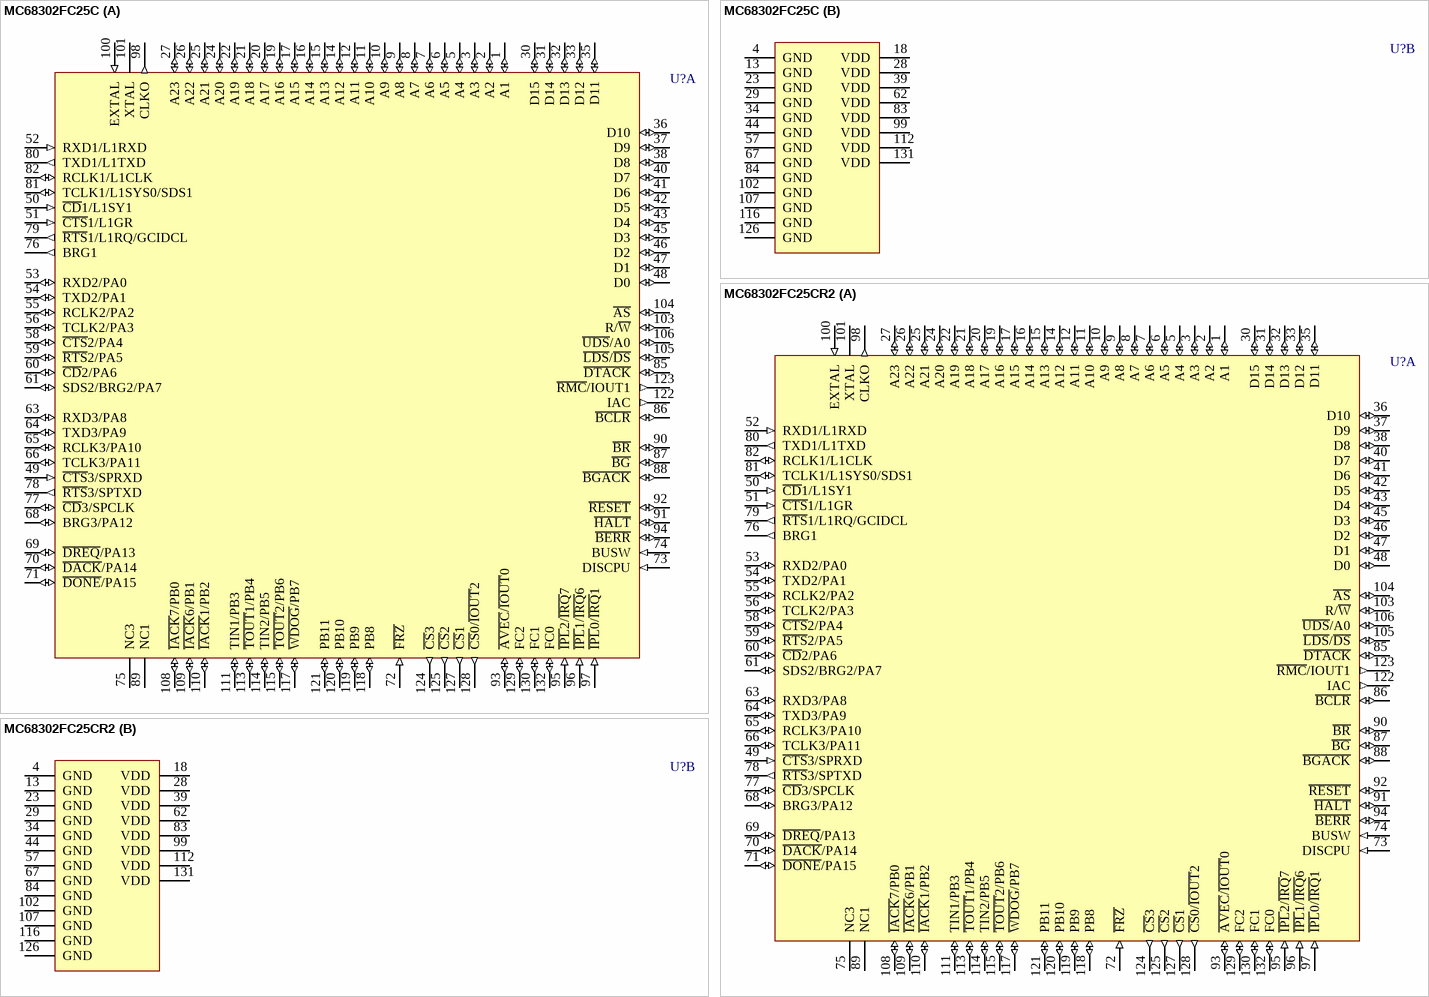
[diagram p77: symbols MC68302FC25C to MC68302FC25CR2]

## MC68302FC25C
designator U?
Integrated Multiprotocol Processor; Published: 21-Mar-2003; DatasheetVersion: 30-Dec-1995; PackageVersion: 1997; PackageReference: 831A-01; Publisher: Altium Limited; PackageDescription: PQFP; 132 Leads; Body 24 x 24 mm; Pitch 0.635 mm; ComponentLink1Description: Manufacturer Link; ComponentLink1URL: http://www.freescale.com/
footprint 831A-01 (PQFP; 132 Leads; Body 24 x 24 mm; Pitch 0.635 mm)
part A pins: 1 A1 (io), 2 A2 (io), 3 A3 (io), 5 A4 (io), 6 A5 (io), 7 A6 (io), 8 A7 (io), 9 A8 (io), 10 A9 (io), 11 A10 (io), 12 A11 (io), 14 A12 (io), 15 A13 (io), 16 A14 (io), 17 A15 (io), 19 A16 (io), 20 A17 (io), 21 A18 (io), 22 A19 (io), 24 A20 (io), 25 A21 (io), 26 A22 (io), 27 A23 (io), 30 D15 (io), 31 D14 (io), 32 D13 (io), 33 D12 (io), 35 D11 (io), 36 D10 (io), 37 D9 (io), 38 D8 (io), 40 D7 (io), 41 D6 (io), 42 D5 (io), 43 D4 (io), 45 D3 (io), 46 D2 (io), 47 D1 (io), 48 D0 (io), 49 ~{CTS}3/SPRXD (in), 50 ~{CD}1/L1SY1 (in), 51 ~{CTS}1/L1GR (in), 52 RXD1/L1RXD (in), 53 RXD2/PA0 (io), 54 TXD2/PA1 (io), 55 RCLK2/PA2 (io), 56 TCLK2/PA3 (io), 58 ~{CTS}2/PA4 (io), 59 ~{RTS}2/PA5 (io), 60 ~{CD}2/PA6 (io), 61 SDS2/BRG2/PA7 (io), 63 RXD3/PA8 (io), 64 TXD3/PA9 (io), 65 RCLK3/PA10 (io), 66 TCLK3/PA11 (io), 68 BRG3/PA12 (io), 69 ~{DREQ}/PA13 (io), 70 ~{DACK}/PA14 (io), 71 ~{DONE}/PA15 (io), 72 ~{FRZ} (in), 73 DISCPU (in), 74 BUSW (in), 75 NC3, 76 BRG1 (out), 77 ~{CD}3/SPCLK (io), 78 ~{RTS}3/SPTXD (out), 79 ~{RTS}1/L1RQ/GCIDCL (out), 80 TXD1/L1TXD (out), 81 TCLK1/L1SYS0/SDS1 (io), 82 RCLK1/L1CLK (io), 85 ~{DTACK} (io), 86 ~{BCLR} (io), 87 ~{BG} (io), 88 ~{BGACK} (io), 89 NC1, 90 ~{BR} (io), 91 ~{HALT} (io), 92 ~{RESET} (io), 93 ~{AVEC}/~{IOUT}0 (io), 94 ~{BERR} (io), 95 ~{IPL}2/~{IRQ}7 (in), 96 ~{IPL}1/~{IRQ}6 (in), 97 ~{IPL}0/~{IRQ}1 (in), 98 CLKO (out), 100 EXTAL (in), 101 XTAL, 103 R/~{W} (io), 104 ~{AS} (io), 105 ~{LDS}/~{DS} (io), 106 ~{UDS}/A0 (io), 108 ~{IACK}7/PB0 (io), 109 ~{IACK}6/PB1 (io), 110 ~{IACK}1/PB2 (io), 111 TIN1/PB3 (io), 113 ~{TOUT}1/PB4 (io), 114 TIN2/PB5 (io), 115 ~{TOUT}2/PB6 (io), 117 ~{WDOG}/PB7 (io), 118 PB8 (io), 119 PB9 (io), 120 PB10 (io), 121 PB11 (io), 122 IAC (out), 123 ~{RMC}/IOUT1 (out), 124 ~{CS}3 (out), 125 ~{CS}2 (out), 127 ~{CS}1 (out), 128 ~{CS}0/~{IOUT}2 (out), 129 FC2 (io), 130 FC1 (io), 132 FC0 (io)
part B pins: 4 GND (power), 13 GND (power), 18 VDD (power), 23 GND (power), 28 VDD (power), 29 GND (power), 34 GND (power), 39 VDD (power), 44 GND (power), 57 GND (power), 62 VDD (power), 67 GND (power), 83 VDD (power), 84 GND (power), 99 VDD (power), 102 GND (power), 107 GND (power), 112 VDD (power), 116 GND (power), 126 GND (power), 131 VDD (power)

## MC68302FC25CR2
designator U?
Integrated Multiprotocol Processor; Published: 21-Mar-2003; DatasheetVersion: 30-Dec-1995; PackageVersion: 1997; PackageReference: 831A-01; Publisher: Altium Limited; PackageDescription: PQFP; 132 Leads; Body 24 x 24 mm; Pitch 0.635 mm; ComponentLink1Description: Manufacturer Link; ComponentLink1URL: http://www.freescale.com/
footprint 831A-01 (PQFP; 132 Leads; Body 24 x 24 mm; Pitch 0.635 mm)
part A pins: 1 A1 (io), 2 A2 (io), 3 A3 (io), 5 A4 (io), 6 A5 (io), 7 A6 (io), 8 A7 (io), 9 A8 (io), 10 A9 (io), 11 A10 (io), 12 A11 (io), 14 A12 (io), 15 A13 (io), 16 A14 (io), 17 A15 (io), 19 A16 (io), 20 A17 (io), 21 A18 (io), 22 A19 (io), 24 A20 (io), 25 A21 (io), 26 A22 (io), 27 A23 (io), 30 D15 (io), 31 D14 (io), 32 D13 (io), 33 D12 (io), 35 D11 (io), 36 D10 (io), 37 D9 (io), 38 D8 (io), 40 D7 (io), 41 D6 (io), 42 D5 (io), 43 D4 (io), 45 D3 (io), 46 D2 (io), 47 D1 (io), 48 D0 (io), 49 ~{CTS}3/SPRXD (in), 50 ~{CD}1/L1SY1 (in), 51 ~{CTS}1/L1GR (in), 52 RXD1/L1RXD (in), 53 RXD2/PA0 (io), 54 TXD2/PA1 (io), 55 RCLK2/PA2 (io), 56 TCLK2/PA3 (io), 58 ~{CTS}2/PA4 (io), 59 ~{RTS}2/PA5 (io), 60 ~{CD}2/PA6 (io), 61 SDS2/BRG2/PA7 (io), 63 RXD3/PA8 (io), 64 TXD3/PA9 (io), 65 RCLK3/PA10 (io), 66 TCLK3/PA11 (io), 68 BRG3/PA12 (io), 69 ~{DREQ}/PA13 (io), 70 ~{DACK}/PA14 (io), 71 ~{DONE}/PA15 (io), 72 ~{FRZ} (in), 73 DISCPU (in), 74 BUSW (in), 75 NC3, 76 BRG1 (out), 77 ~{CD}3/SPCLK (io), 78 ~{RTS}3/SPTXD (out), 79 ~{RTS}1/L1RQ/GCIDCL (out), 80 TXD1/L1TXD (out), 81 TCLK1/L1SYS0/SDS1 (io), 82 RCLK1/L1CLK (io), 85 ~{DTACK} (io), 86 ~{BCLR} (io), 87 ~{BG} (io), 88 ~{BGACK} (io), 89 NC1, 90 ~{BR} (io), 91 ~{HALT} (io), 92 ~{RESET} (io), 93 ~{AVEC}/~{IOUT}0 (io), 94 ~{BERR} (io), 95 ~{IPL}2/~{IRQ}7 (in), 96 ~{IPL}1/~{IRQ}6 (in), 97 ~{IPL}0/~{IRQ}1 (in), 98 CLKO (out), 100 EXTAL (in), 101 XTAL, 103 R/~{W} (io), 104 ~{AS} (io), 105 ~{LDS}/~{DS} (io), 106 ~{UDS}/A0 (io), 108 ~{IACK}7/PB0 (io), 109 ~{IACK}6/PB1 (io), 110 ~{IACK}1/PB2 (io), 111 TIN1/PB3 (io), 113 ~{TOUT}1/PB4 (io), 114 TIN2/PB5 (io), 115 ~{TOUT}2/PB6 (io), 117 ~{WDOG}/PB7 (io), 118 PB8 (io), 119 PB9 (io), 120 PB10 (io), 121 PB11 (io), 122 IAC (out), 123 ~{RMC}/IOUT1 (out), 124 ~{CS}3 (out), 125 ~{CS}2 (out), 127 ~{CS}1 (out), 128 ~{CS}0/~{IOUT}2 (out), 129 FC2 (io), 130 FC1 (io), 132 FC0 (io)
part B pins: 4 GND (power), 13 GND (power), 18 VDD (power), 23 GND (power), 28 VDD (power), 29 GND (power), 34 GND (power), 39 VDD (power), 44 GND (power), 57 GND (power), 62 VDD (power), 67 GND (power), 83 VDD (power), 84 GND (power), 99 VDD (power), 102 GND (power), 107 GND (power), 112 VDD (power), 116 GND (power), 126 GND (power), 131 VDD (power)

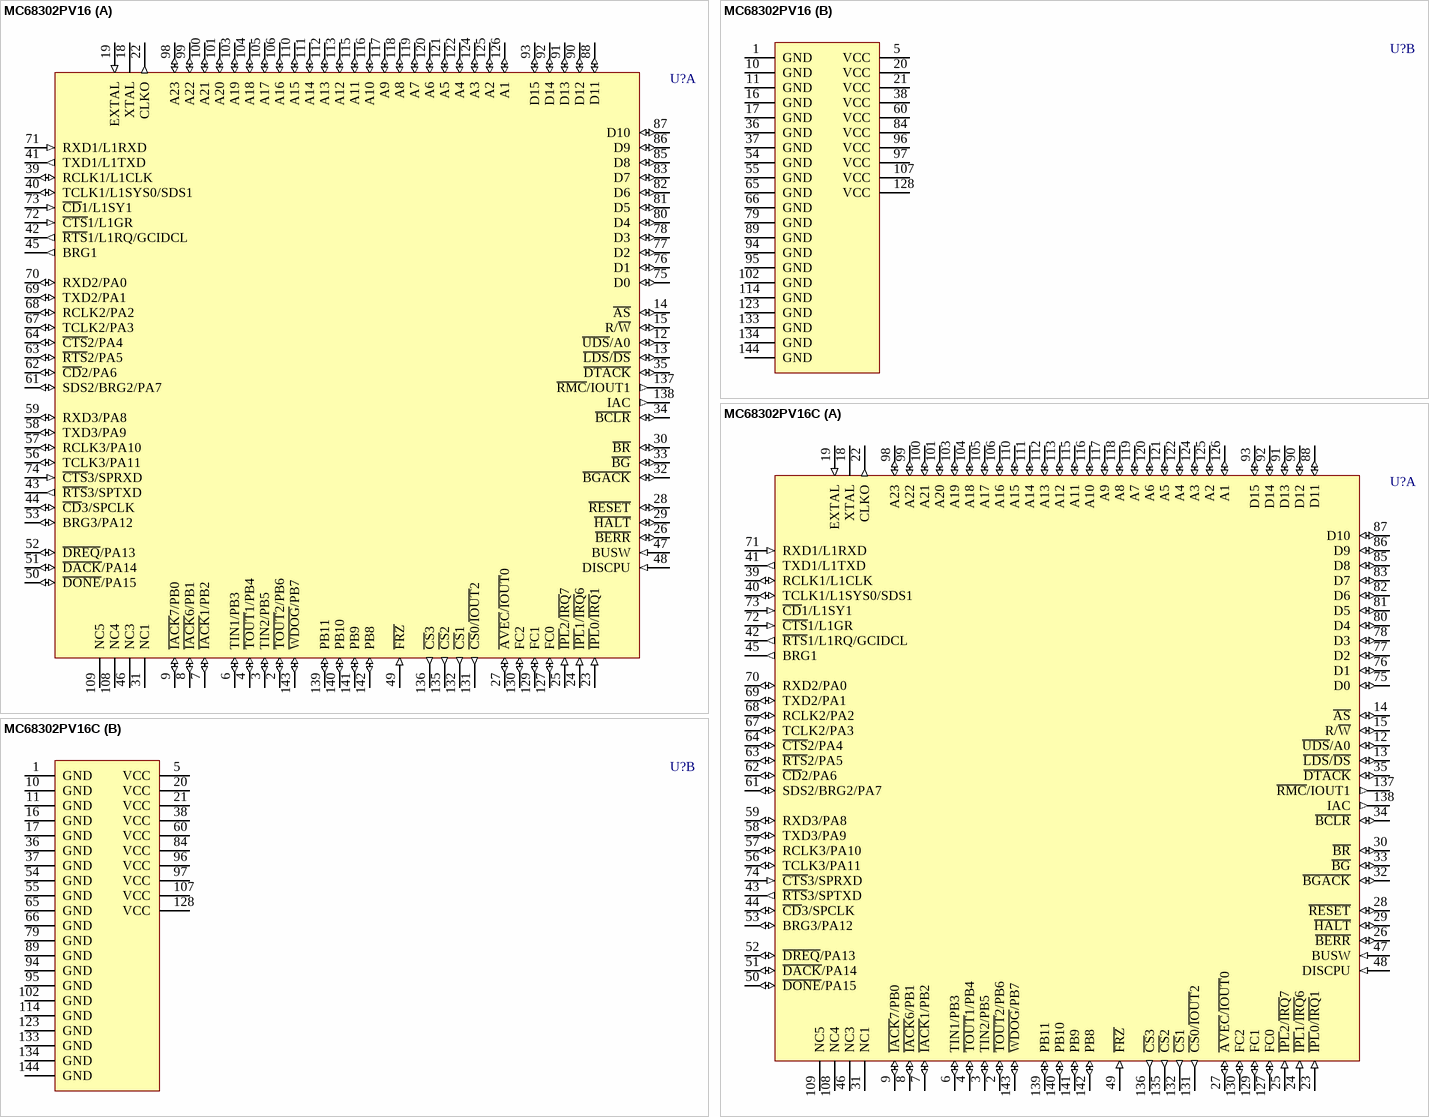
[diagram p78: symbols MC68302PV16 to MC68302PV16C]